# Altium schematic symbol library HGH.SchLib: 274 symbols (part 1 of 2)
Pins are listed as number, name and electrical type; pins without a type are passive.

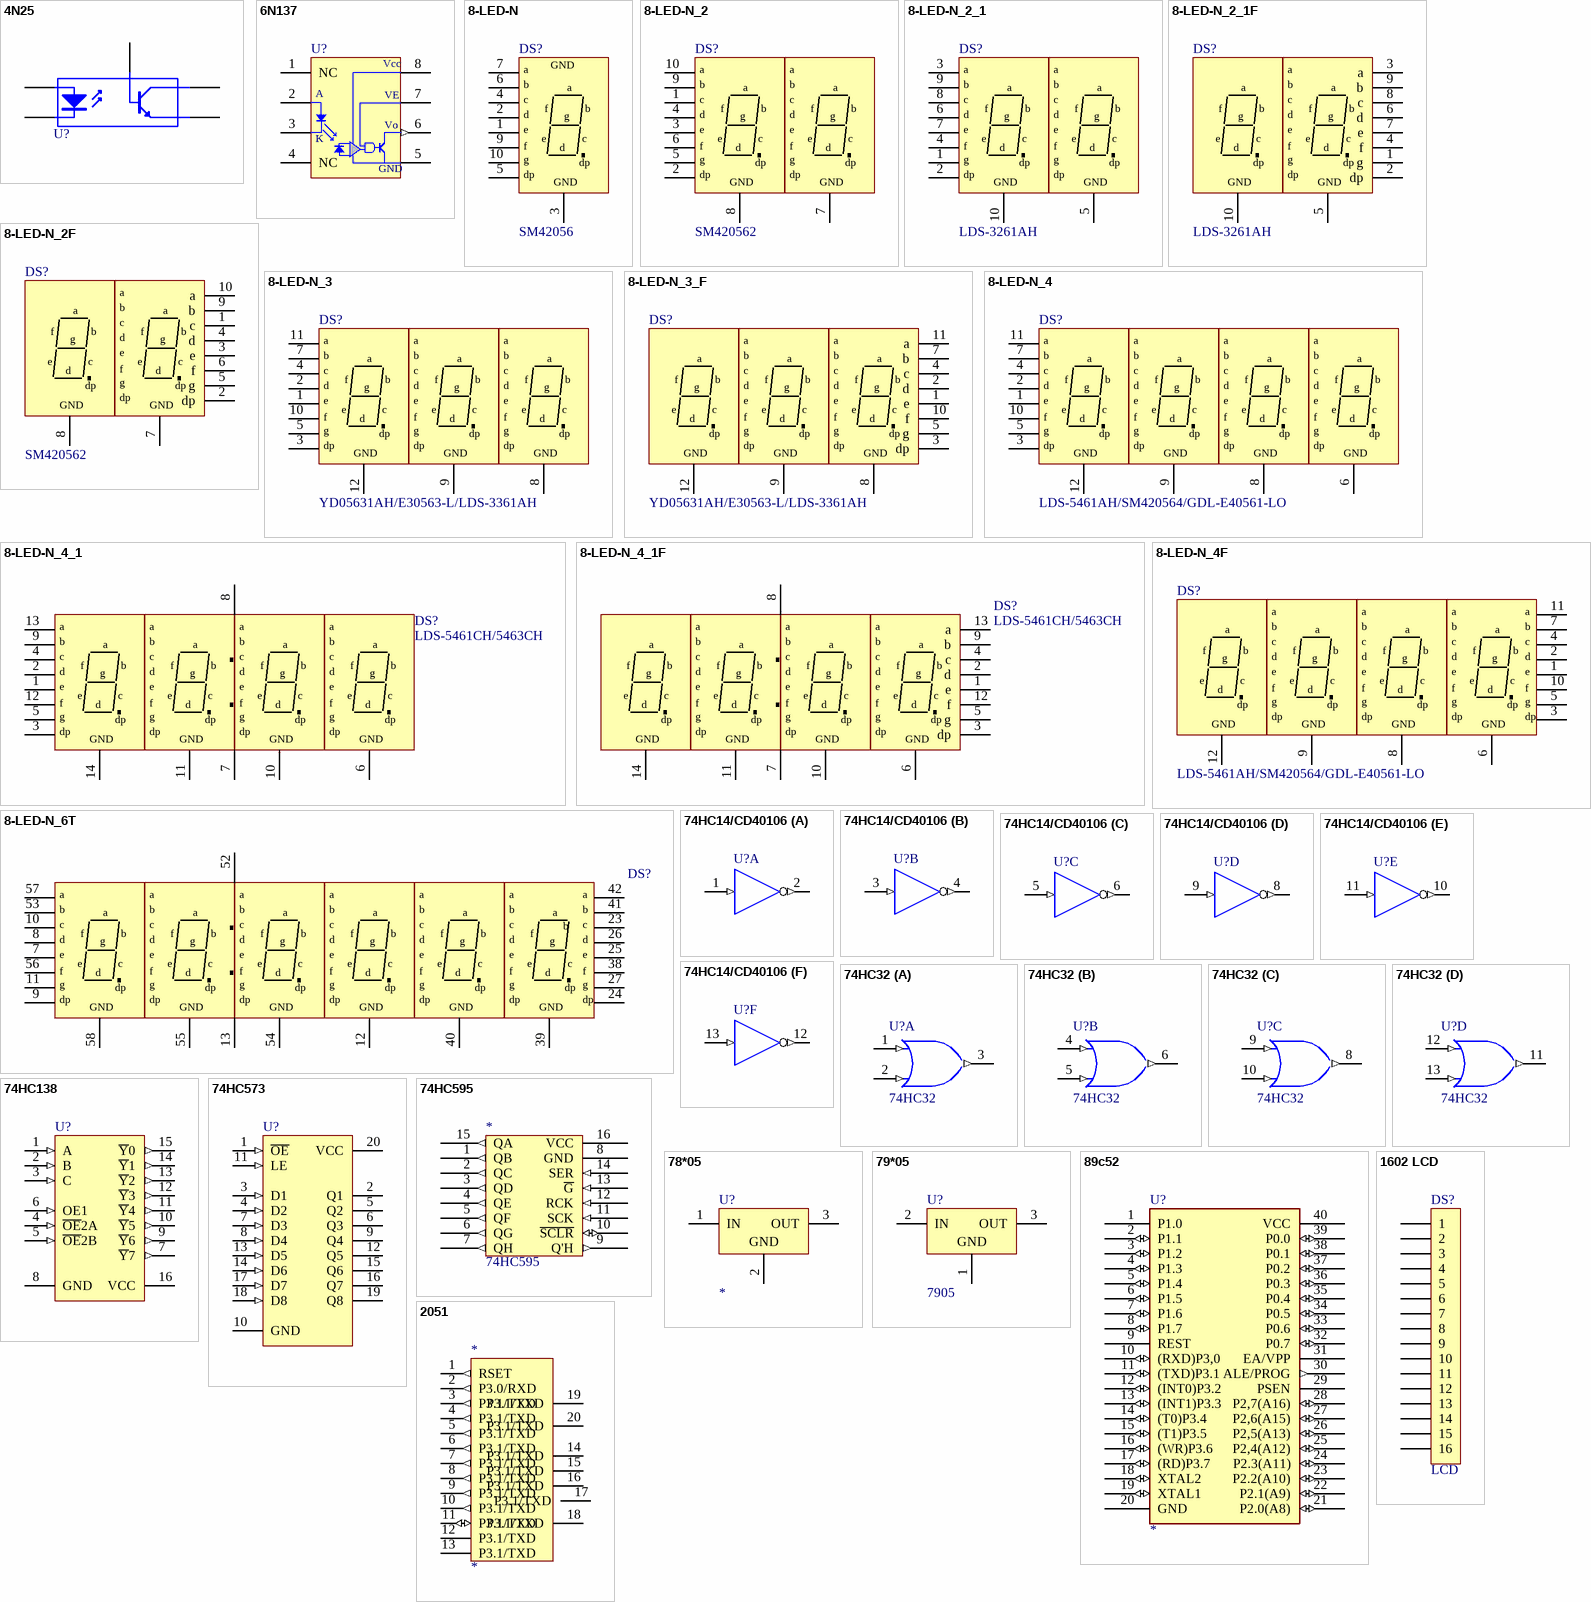
[diagram p0: symbols 4N25 to 2051]

## 4N25
designator U?
Optoisolator; Manufacturer: Generic Components; Class: Optoelectronic; Published: 1999
simulation model OPTOISO (Spice Subcircuit)
footprint DIP6
pins: 1 A, 2 K, 3 NC hidden to NC, 4 E, 5 C, 6 B

## 6N137
designator U?
Optoisolator,high speed; Manufacturer: Generic Components; Class: Optoelectronic; Published: 1999
simulation model OPTOISO (Spice Subcircuit)
footprint DIP8
pins: 1 NC, 2 A, 3 K, 4 NC, 5 GND (power), 6 Vo (out), 7 VE, 8 Vcc (power)

## 8-LED-N
designator DS?, comment SM42056
Common Cathhode Seven-Segment Display, Right Hand Decimal; Manufacturer: Generic Components; Class: Optoelectronic; SubClass: LED Display; Published: 08/06/2000; Publisher: Altium Hobart Technology Centre
simulation model AMBERCC (Spice Subcircuit)
footprint DPY-1
footprint DPY-1 - F
pins: 1 e, 2 d, 3 GND, 4 c, 5 dp, 6 b, 7 a, 8 GND hidden to GND, 9 f, 10 g

## 8-LED-N_2
designator DS?, comment SM420562
Common Cathhode Seven-Segment Display, Right Hand Decimal; Manufacturer: Generic Components; Class: Optoelectronic; SubClass: LED Display; Published: 08/06/2000; Publisher: Altium Hobart Technology Centre
simulation model AMBERCC (Spice Subcircuit)
footprint DPY-2(SM420562)
footprint DPY-2(SM420562)-T
footprint DPY-2-F(SM)
pins: 1 c, 2 dp, 3 e, 4 d, 5 g, 6 f, 7 GND, 8 GND, 9 b, 10 a

## 8-LED-N_2_1
designator DS?, comment LDS-3261AH
Common Cathhode Seven-Segment Display, Right Hand Decimal; Manufacturer: Generic Components; Class: Optoelectronic; SubClass: LED Display; Published: 08/06/2000; Publisher: Altium Hobart Technology Centre
simulation model AMBERCC (Spice Subcircuit)
footprint DPY-2 (LDS-3261AH)
pins: 1 g, 2 dp, 3 a, 4 f, 5 GND, 6 d, 7 e, 8 c, 9 b, 10 GND

## 8-LED-N_2_1F
designator DS?, comment LDS-3261AH
Common Cathhode Seven-Segment Display, Right Hand Decimal; Manufacturer: Generic Components; Class: Optoelectronic; SubClass: LED Display; Published: 08/06/2000; Publisher: Altium Hobart Technology Centre
simulation model AMBERCC (Spice Subcircuit)
footprint DPY-2 (LDS-3261AH)
pins: 1 g, 2 dp, 3 a, 4 f, 5 GND, 6 d, 7 e, 8 c, 9 b, 10 GND

## 8-LED-N_2F
designator DS?, comment SM420562
Common Cathhode Seven-Segment Display, Right Hand Decimal; Manufacturer: Generic Components; Class: Optoelectronic; SubClass: LED Display; Published: 08/06/2000; Publisher: Altium Hobart Technology Centre
simulation model AMBERCC (Spice Subcircuit)
footprint DPY-2(SM420562)
footprint DPY-2(SM420562)-T
pins: 1 c, 2 dp, 3 e, 4 d, 5 g, 6 f, 7 GND, 8 GND, 9 b, 10 a

## 8-LED-N_3
designator DS?, comment YD05631AH/E30563-L/LDS-3361AH
Common Cathhode Seven-Segment Display, Right Hand Decimal; Manufacturer: Generic Components; Class: Optoelectronic; SubClass: LED Display; Published: 08/06/2000; Publisher: Altium Hobart Technology Centre
simulation model AMBERCC (Spice Subcircuit)
footprint DPY-3(YD05631AH)
footprint DPY-3(YD05631AH)-T
footprint DPY-3(LDS-3361AH)
footprint DPY-3-F
pins: 1 e, 2 d, 3 dp, 4 c, 5 g, 7 b, 8 GND, 9 GND, 10 f, 11 a, 12 GND

## 8-LED-N_3_F
designator DS?, comment YD05631AH/E30563-L/LDS-3361AH
Common Cathhode Seven-Segment Display, Right Hand Decimal; Manufacturer: Generic Components; Class: Optoelectronic; SubClass: LED Display; Published: 08/06/2000; Publisher: Altium Hobart Technology Centre
simulation model AMBERCC (Spice Subcircuit)
footprint DPY-3(YD05631AH)
footprint DPY-3(YD05631AH)-T
footprint DPY-3(LDS-3361AH)
pins: 1 e, 2 d, 3 dp, 4 c, 5 g, 7 b, 8 GND, 9 GND, 10 f, 11 a, 12 GND

## 8-LED-N_4
designator DS?, comment LDS-5461AH/SM420564/GDL-E40561-LO
Common Cathhode Seven-Segment Display, Right Hand Decimal; Manufacturer: Generic Components; Class: Optoelectronic; SubClass: LED Display; Published: 08/06/2000; Publisher: Altium Hobart Technology Centre
simulation model AMBERCC (Spice Subcircuit)
footprint DPY-4 (SM420564)
footprint DPY-4 (SM420564) - T
footprint DPY-4-S
pins: 1 e, 2 d, 3 dp, 4 c, 5 g, 6 GND, 7 b, 8 GND, 9 GND, 10 f, 11 a, 12 GND

## 8-LED-N_4_1
designator DS?, comment LDS-5461CH/5463CH
Common Cathhode Seven-Segment Display, Right Hand Decimal; Manufacturer: Generic Components; Class: Optoelectronic; SubClass: LED Display; Published: 08/06/2000; Publisher: Altium Hobart Technology Centre
simulation model AMBERCC (Spice Subcircuit)
footprint DPY-4 (LDS-5461CH)
footprint DPY-4(LDS-5461AH)-T
pins: 1 e, 2 d, 3 dp, 4 c, 5 g, 6 GND, 7 GND, 8 dot, 9 b, 10 GND, 11 GND, 12 f, 13 a, 14 GND

## 8-LED-N_4_1F
designator DS?, comment LDS-5461CH/5463CH
Common Cathhode Seven-Segment Display, Right Hand Decimal; Manufacturer: Generic Components; Class: Optoelectronic; SubClass: LED Display; Published: 08/06/2000; Publisher: Altium Hobart Technology Centre
simulation model AMBERCC (Spice Subcircuit)
footprint DPY-4 (LDS-5461CH)
footprint DPY-4(LDS-5461AH)-T
footprint DPY-4-S
pins: 1 e, 2 d, 3 dp, 4 c, 5 g, 6 GND, 7 GND, 8 dot, 9 b, 10 GND, 11 GND, 12 f, 13 a, 14 GND

## 8-LED-N_4F
designator DS?, comment LDS-5461AH/SM420564/GDL-E40561-LO
Common Cathhode Seven-Segment Display, Right Hand Decimal; Manufacturer: Generic Components; Class: Optoelectronic; SubClass: LED Display; Published: 08/06/2000; Publisher: Altium Hobart Technology Centre
simulation model AMBERCC (Spice Subcircuit)
footprint DPY-4 (SM420564)
footprint DPY-4 (SM420564) - T
footprint DPY-4-S
pins: 1 e, 2 d, 3 dp, 4 c, 5 g, 6 GND, 7 b, 8 GND, 9 GND, 10 f, 11 a, 12 GND

## 8-LED-N_6T
designator DS?
Common Cathhode Seven-Segment Display, Right Hand Decimal; Manufacturer: Generic Components; Class: Optoelectronic; SubClass: LED Display; Published: 08/06/2000; Publisher: Altium Hobart Technology Centre
simulation model AMBERCC (Spice Subcircuit)
footprint DPY-6T/64
footprint DPY-6T/64 - T
pins: 7 e, 8 d, 9 dp, 10 c, 11 g, 12 GND, 13 GND, 23 c, 24 dp, 25 e, 26 d, 27 g, 38 f, 39 GND, 40 GND, 41 b, 42 a, 52 dot, 53 b, 54 GND, 55 GND, 56 f, 57 a, 58 GND

## 74HC14/CD40106
designator U?
Hex Schmitt-Trigger Inverter; Manufacturer: Texas Instruments; Class: Logic; SubClass: Gate; Published: 8/06/2000; Publisher: Altium Hobart Technology Centre
footprint SOP14
pins on every part: 7 GND (power) hidden to GND, 14 VCC (power) hidden to VCC
part A pins: 1 A (in), 2 Y (out)
part B pins: 3 A (in), 4 Y (out)
part C pins: 5 A (in), 6 Y (out)
part D pins: 8 Y (out), 9 A (in)
part E pins: 10 Y (out), 11 A (in)
part F pins: 12 Y (out), 13 A (in)

## 74HC32
designator U?
Quadruple 2-Input Positive-OR Gate; Manufacturer: Texas Instruments; Class: Logic; Published: 8/06/2000; Publisher: Altium Hobart Technology Centre; SubClass: Gate
footprint SOP14_74HC32
pins on every part: 7 GND (power) hidden to GND, 14 VCC (power) hidden to VCC
part A pins: 1 A (in), 2 B (in), 3 Y (out)
part B pins: 4 A (in), 5 B (in), 6 Y (out)
part C pins: 8 Y (out), 9 A (in), 10 B (in)
part D pins: 11 Y (out), 12 A (in), 13 B (in)

## 74HC138
designator U?
3-Line to 8-Line Decoder / Demultiplexer; Manufacturer: Texas Instruments; Revised: 12-July-2000: SIM Model Added.; Class: Logic; Published: 8/06/2000; Publisher: Altium Hobart Technology Centre; SubClass: Decoder/Demultiplexer
footprint SOP16_74LV138
pins: 1 A (in), 2 B (in), 3 C (in), 4 ~{OE}2A (in), 5 ~{OE}2B (in), 6 OE1 (in), 7 ~{Y}7 (out), 8 GND (power), 9 ~{Y}6 (out), 10 ~{Y}5 (out), 11 ~{Y}4 (out), 12 ~{Y}3 (out), 13 ~{Y}2 (out), 14 ~{Y}1 (out), 15 ~{Y}0 (out), 16 VCC (power)

## 74HC573
designator U?
Octal D-Type Transparent Latche and Edge-Triggered Flip-Flops; Manufacturer: Texas Instruments; Class: Logic; SubClass: Latch; Published: 8-Jun-2000.; Publisher: Altium Hobart Technology Centre
footprint SOP20
pins: 1 ~{OE} (in), 2 Q1 (hiz), 3 D1 (in), 4 D2 (in), 5 Q2 (hiz), 6 Q3 (hiz), 7 D3 (in), 8 D4 (in), 9 Q4 (hiz), 10 GND (power), 11 LE (in), 12 Q5 (hiz), 13 D5 (in), 14 D6 (in), 15 Q6 (hiz), 16 Q7 (hiz), 17 D7 (in), 18 D8 (in), 19 Q8 (hiz), 20 VCC (power)

## 74HC595
designator *
footprint SOP16_7843
footprint SOP16_202
pins: 1 QB (out), 2 QC (out), 3 QD (out), 4 QE (out), 5 QF (out), 6 QG (out), 7 QH (out), 8 GND (power), 9 Q'H (out), 10 ~{SCLR} (io), 11 SCK (in), 12 RCK (in), 13 ~{G} (in), 14 SER (in), 15 QA (out), 16 VCC (power)

## 78*05
designator U?
pins: 1 IN (power), 2 GND (power), 3 OUT (power)

## 79*05
designator U?, comment 7905
pins: 1 GND (power), 2 IN (power), 3 OUT (power)

## 89c52
designator U?
AT89C52
footprint DIP40
pins: 1 P1.0, 2 P1.1 (io), 3 P1.2 (io), 4 P1.3 (io), 5 P1.4 (io), 6 P1.5 (io), 7 P1.6 (io), 8 P1.7 (io), 9 REST, 10 (RXD)P3,0 (io), 11 (TXD)P3.1 (io), 12 (INT0)P3.2 (io), 13 (INT1)P3.3 (io), 14 (T0)P3.4 (io), 15 (T1)P3.5 (io), 16 (WR)P3.6 (io), 17 (RD)P3.7 (io), 18 XTAL2 (io), 19 XTAL1 (io), 20 GND (power), 21 P2.0(A8) (io), 22 P2.1(A9) (io), 23 P2.2(A10) (io), 24 P2.3(A11) (io), 25 P2,4(A12) (io), 26 P2,5(A13) (io), 27 P2,6(A15) (io), 28 P2,7(A16) (io), 29 PSEN (oe), 30 ALE/PROG (out), 31 EA/VPP (power), 32 P0.7 (io), 33 P0.6 (io), 34 P0.5 (io), 35 P0.4 (io), 36 P0.3 (io), 37 P0.2 (io), 38 P0.1 (io), 39 P0.0 (io), 40 VCC (power)

## 1602 LCD
designator DS?, comment LCD
1601/1602 LCD
footprint 1602 LCD (LCD)
pins: 1, 2, 3, 4, 5, 6, 7, 8, 9, 10, 11, 12, 13, 14, 15, 16

## 2051
designator *
pins: 1 RSET (out), 2 P3.0/RXD (out), 3 P3.1/TXD (out), 4 P3.1/TXD (out), 5 P3.1/TXD (out), 6 P3.1/TXD (out), 7 P3.1/TXD (out), 8 P3.1/TXD (out), 9 P3.1/TXD (out), 10 P3.1/TXD (out), 11 P3.1/TXD (io), 12 P3.1/TXD (oc), 13 P3.1/TXD, 14 P3.1/TXD (hiz), 15 P3.1/TXD (hiz), 16 P3.1/TXD (hiz), 17 P3.1/TXD (hiz), 18 P3.1/TXD (hiz), 19 P3.1/TXD (hiz), 20 P3.1/TXD (hiz)

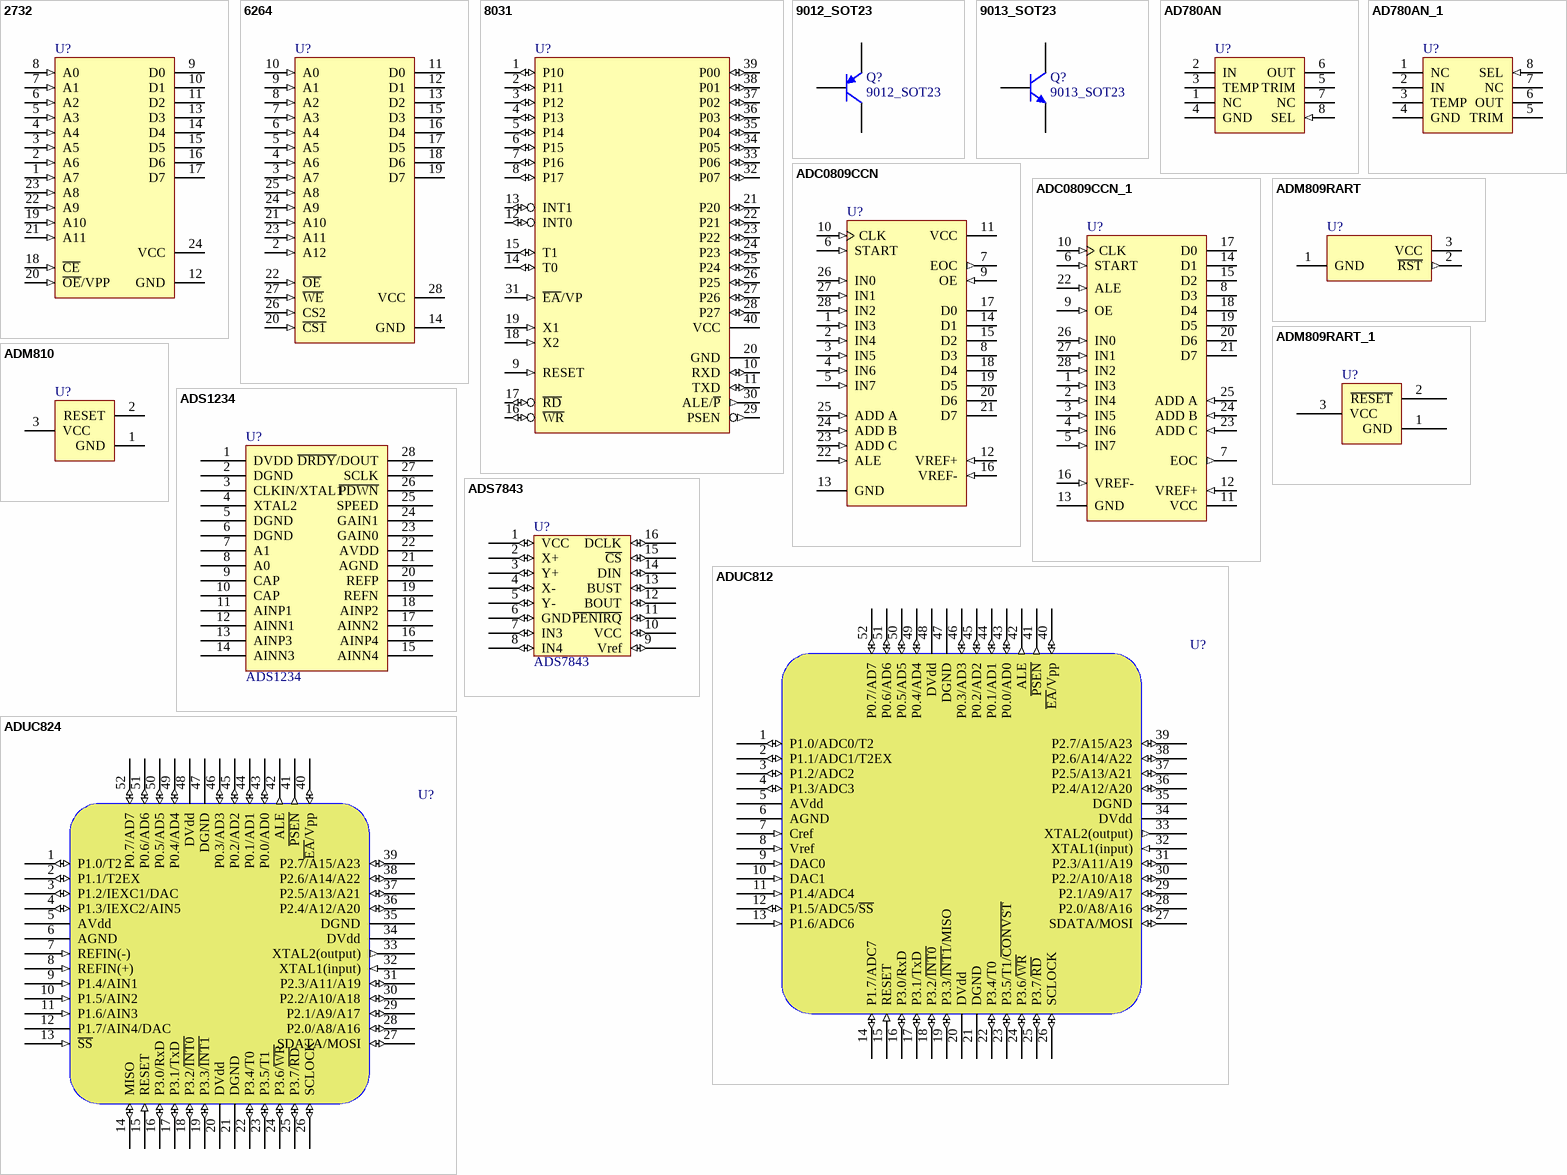
[diagram p1: symbols 2732 to ADUC824]

## 2732
designator U?
ROM,4K
footprint DIP28
pins: 1 A7 (in), 2 A6 (in), 3 A5 (in), 4 A4 (in), 5 A3 (in), 6 A2 (in), 7 A1 (in), 8 A0 (in), 9 D0 (hiz), 10 D1 (hiz), 11 D2 (hiz), 12 GND, 13 D3 (hiz), 14 D4 (hiz), 15 D5 (hiz), 16 D6 (hiz), 17 D7 (hiz), 18 ~{CE} (in), 19 A10 (in), 20 ~{OE}/VPP (in), 21 A11 (in), 22 A9 (in), 23 A8 (in), 24 VCC

## 6264
designator U?
RAM,8K
footprint DIP28
pins: 2 A12 (in), 3 A7 (in), 4 A6 (in), 5 A5 (in), 6 A4 (in), 7 A3 (in), 8 A2 (in), 9 A1 (in), 10 A0 (in), 11 D0 (hiz), 12 D1 (hiz), 13 D2 (hiz), 14 GND, 15 D3 (hiz), 16 D4 (hiz), 17 D5 (hiz), 18 D6 (hiz), 19 D7 (hiz), 20 ~{CS1} (in), 21 A10 (in), 22 ~{OE} (in), 23 A11 (in), 24 A9 (in), 25 A8 (in), 26 CS2 (in), 27 ~{WE} (in), 28 VCC

## 8031
designator U?
MUC
footprint DIP40
pins: 1 P10 (io), 2 P11 (io), 3 P12 (io), 4 P13 (io), 5 P14 (io), 6 P15 (io), 7 P16 (io), 8 P17 (io), 9 RESET (in), 10 RXD (io), 11 TXD (io), 12 INT0 (io), 13 INT1 (io), 14 T0 (io), 15 T1 (io), 16 ~{WR} (io), 17 ~{RD} (io), 18 X2 (in), 19 X1 (in), 20 GND, 21 P20 (io), 22 P21 (io), 23 P22 (io), 24 P23 (io), 25 P24 (io), 26 P25 (io), 27 P26 (io), 28 P27 (io), 29 PSEN (out), 30 ALE/~{P} (out), 31 ~{EA}/VP (in), 32 P07 (io), 33 P06 (io), 34 P05 (io), 35 P04 (io), 36 P03 (io), 37 P02 (io), 38 P01 (io), 39 P00 (io), 40 VCC

## 9012_SOT23
designator Q?
footprint SOT-23-3L
pins: 1 B, 2 E, 3 C

## 9013_SOT23
designator Q?
footprint SOT-23-3L
pins: 1 B, 2 E, 3 C

## AD780AN
designator U?
2.5V/3.0V High-Precision Reference; Manufacturer: Analog Devices; Revised: 10-July-2000: SIM Model Added.; Class: Power Management; SubClass: Voltage Reference; Note: Pins 1 and 7 are not connected; Published: 8/06/2000; Publisher: Altium Hobart Technology Centre
simulation model AD780A (SUBCKT)
footprint DIP8
pins: 1 NC, 2 IN (power), 3 TEMP, 4 GND (power), 5 TRIM, 6 OUT (power), 7 NC, 8 SEL (in)

## AD780AN_1
designator U?
2.5V/3.0V High-Precision Reference; Manufacturer: Analog Devices; Revised: 10-July-2000: SIM Model Added.; Class: Power Management; SubClass: Voltage Reference; Note: Pins 1 and 7 are not connected; Published: 8/06/2000; Publisher: Altium Hobart Technology Centre
footprint DIP8
simulation model AD780A (SUBCKT)
pins: 1 NC, 2 IN (power), 3 TEMP, 4 GND (power), 5 TRIM, 6 OUT (power), 7 NC, 8 SEL (in)

## ADC0809CCN
designator U?
8-Bit 礟-Compatible A/D Converter with 8-Channel Multiplexer; Manufacturer: National Semiconductor; SubClass: Analog to Digital; Published: 15/04/2002; Publisher: Altium Hobart Technology Centre; Class: Converter
footprint DIP28
pins: 1 IN3 (in), 2 IN4 (in), 3 IN5 (in), 4 IN6 (in), 5 IN7 (in), 6 START (in), 7 EOC (out), 8 D3 (hiz), 9 OE (in), 10 CLK (in), 11 VCC (power), 12 VREF+ (in), 13 GND (power), 14 D1 (hiz), 15 D2 (hiz), 16 VREF- (in), 17 D0 (hiz), 18 D4 (hiz), 19 D5 (hiz), 20 D6 (hiz), 21 D7 (hiz), 22 ALE (in), 23 ADD C (in), 24 ADD B (in), 25 ADD A (in), 26 IN0 (in), 27 IN1 (in), 28 IN2 (in)

## ADC0809CCN_1
designator U?
8-Bit 礟-Compatible A/D Converter with 8-Channel Multiplexer; Manufacturer: National Semiconductor; SubClass: Analog to Digital; Published: 15/04/2002; Publisher: Altium Hobart Technology Centre; Class: Converter
footprint DIP28
pins: 1 IN3 (in), 2 IN4 (in), 3 IN5 (in), 4 IN6 (in), 5 IN7 (in), 6 START (in), 7 EOC (out), 8 D3 (hiz), 9 OE (in), 10 CLK (in), 11 VCC (power), 12 VREF+ (in), 13 GND (power), 14 D1 (hiz), 15 D2 (hiz), 16 VREF- (in), 17 D0 (hiz), 18 D4 (hiz), 19 D5 (hiz), 20 D6 (hiz), 21 D7 (hiz), 22 ALE (in), 23 ADD C (in), 24 ADD B (in), 25 ADD A (in), 26 IN0 (in), 27 IN1 (in), 28 IN2 (in)

## ADM809RART
designator U?
Microprocessor Supervisory Circuit in 3-Pin SOT-23; Manufacturer: Analog Devices; Class: Power Management; Published: 8/06/2000; Publisher: Altium Hobart Technology Centre; SubClass: Supervisory Circuit
footprint SOT-23-3L
pins: 1 GND (power), 2 ~{RST} (out), 3 VCC (power)

## ADM809RART_1
designator U?
Microprocessor Supervisory Circuit in 3-Pin SOT-23,3L; Manufacturer: Analog Devices; Class: Power Management; Published: 8/06/2000; Publisher: Altium Hobart Technology Centre; SubClass: Supervisory Circuit
footprint SOT-23-3L
pins: 1 GND (power), 2 ~{RESET}, 3 VCC (power)

## ADM810
designator U?
Microprocessor Supervisory Circuit in 3-Pin SOT-23,3L; Manufacturer: Analog Devices; Class: Power Management; Published: 8/06/2000; Publisher: Altium Hobart Technology Centre; SubClass: Supervisory Circuit
footprint SOT-23-3L
pins: 1 GND (power), 2 RESET, 3 VCC (power)

## ADS1234
designator U?
footprint SOP28-ADS1234
pins: 1 DVDD, 2 DGND, 3 CLKIN/XTAL1, 4 XTAL2, 5 DGND, 6 DGND, 7 A1, 8 A0, 9 CAP, 10 CAP, 11 AINP1, 12 AINN1, 13 AINP3, 14 AINN3, 15 AINN4, 16 AINP4, 17 AINN2, 18 AINP2, 19 REFN, 20 REFP, 21 AGND, 22 AVDD, 23 GAIN0, 24 GAIN1, 25 SPEED, 26 ~{PDWN}, 27 SCLK, 28 ~{DRDY}/DOUT

## ADS7843
designator U?
footprint SOP16_7843
pins: 1 VCC (io), 2 X+ (io), 3 Y+ (io), 4 X- (io), 5 Y- (io), 6 GND (io), 7 IN3 (io), 8 IN4 (io), 9 Vref (io), 10 VCC (io), 11 ~{PENIRQ} (io), 12 BOUT (io), 13 BUST (io), 14 DIN (io), 15 ~{CS} (io), 16 DCLK (io)

## ADUC812
designator U?
MicroConverter ,Dual 12-Bit ADCs with Emdedded  FLASH MCU; Class: MCU; SubClass: MicroConverter
footprint MQFP10 X10-52(N)
pins: 1 P1.0/ADC0/T2 (io), 2 P1.1/ADC1/T2EX (io), 3 P1.2/ADC2 (io), 4 P1.3/ADC3 (io), 5 AVdd (power), 6 AGND (power), 7 Cref (in), 8 Vref (in), 9 DAC0 (in), 10 DAC1 (in), 11 P1.4/ADC4 (in), 12 P1.5/ADC5/~{SS} (io), 13 P1.6/ADC6 (in), 14 P1.7/ADC7 (io), 15 RESET (in), 16 P3.0/RxD (io), 17 P3.1/TxD (io), 18 P3.2/~{INT0} (io), 19 P3.3/~{INT1}/MISO (io), 20 DVdd (power), 21 DGND (power), 22 P3.4/T0 (io), 23 P3.5/T1/~{CONVST} (io), 24 P3.6/~{WR} (io), 25 P3.7/~{RD} (io), 26 SCLOCK (io), 27 SDATA/MOSI (io), 28 P2.0/A8/A16 (io), 29 P2.1/A9/A17 (io), 30 P2.2/A10/A18 (io), 31 P2.3/A11/A19 (io), 32 XTAL1(input) (in), 33 XTAL2(output) (out), 34 DVdd (power), 35 DGND (power), 36 P2.4/A12/A20 (io), 37 P2.5/A13/A21 (io), 38 P2.6/A14/A22 (io), 39 P2.7/A15/A23 (io), 40 ~{EA}/Vpp (io), 41 ~{PSEN} (out), 42 ALE (out), 43 P0.0/AD0 (io), 44 P0.1/AD1 (io), 45 P0.2/AD2 (io), 46 P0.3/AD3 (io), 47 DGND (power), 48 DVdd (power), 49 P0.4/AD4 (io), 50 P0.5/AD5 (io), 51 P0.6/AD6 (io), 52 P0.7/AD7 (io)

## ADUC824
designator U?
MicroConverter ,Dual 16-24Bit ADCs,MCU; Cllass: MCU; SubClass: MicroConverter
footprint MQFP10 X10-52(N)
pins: 1 P1.0/T2 (io), 2 P1.1/T2EX (io), 3 P1.2/IEXC1/DAC (io), 4 P1.3/IEXC2/AIN5 (io), 5 AVdd (power), 6 AGND (power), 7 REFIN(-) (in), 8 REFIN(+) (in), 9 P1.4/AIN1 (in), 10 P1.5/AIN2 (in), 11 P1.6/AIN3 (in), 12 P1.7/AIN4/DAC, 13 ~{SS} (in), 14 MISO (io), 15 RESET (in), 16 P3.0/RxD (io), 17 P3.1/TxD (io), 18 P3.2/~{INT0} (io), 19 P3.3/~{INT1} (io), 20 DVdd (power), 21 DGND (power), 22 P3.4/T0 (io), 23 P3.5/T1 (io), 24 P3.6/~{WR} (io), 25 P3.7/~{RD} (io), 26 SCLOCK (io), 27 SDATA/MOSI (io), 28 P2.0/A8/A16 (io), 29 P2.1/A9/A17 (io), 30 P2.2/A10/A18 (io), 31 P2.3/A11/A19 (io), 32 XTAL1(input) (in), 33 XTAL2(output) (out), 34 DVdd (power), 35 DGND (power), 36 P2.4/A12/A20 (io), 37 P2.5/A13/A21 (io), 38 P2.6/A14/A22 (io), 39 P2.7/A15/A23 (io), 40 ~{EA}/Vpp (io), 41 ~{PSEN} (out), 42 ALE (out), 43 P0.0/AD0 (io), 44 P0.1/AD1 (io), 45 P0.2/AD2 (io), 46 P0.3/AD3 (io), 47 DGND (power), 48 DVdd (power), 49 P0.4/AD4 (io), 50 P0.5/AD5 (io), 51 P0.6/AD6 (io), 52 P0.7/AD7 (io)

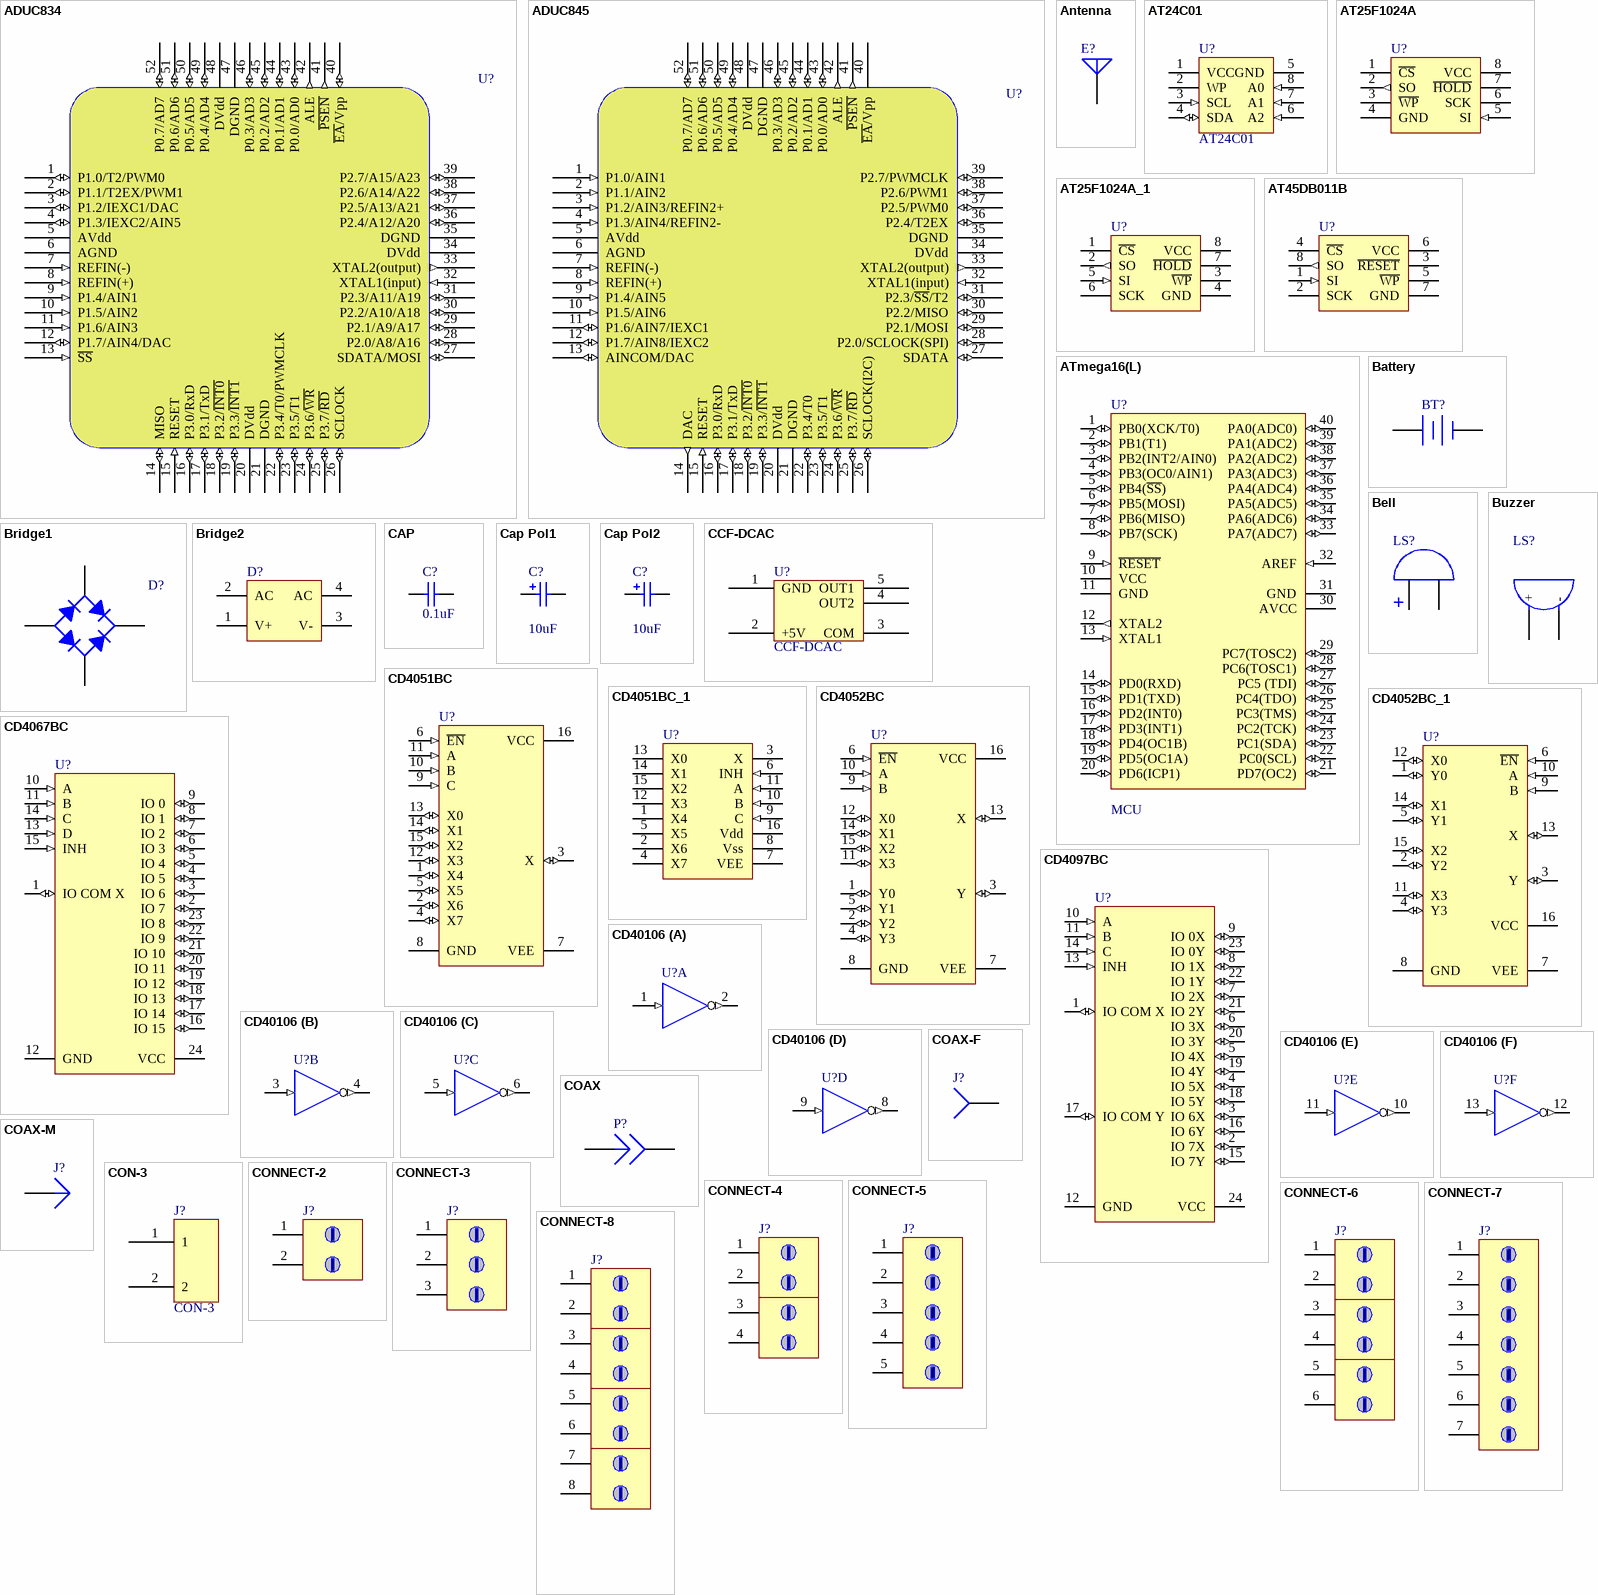
[diagram p2: symbols ADUC834 to CONNECT-8]

## ADUC834
designator U?
MicroConverter ,Dual 16-24Bit ADCs with Emdedded 62KB FLASH MCU; Class: MCU; SubClass: MicroConverter
footprint MQFP10 X10-52(N)
pins: 1 P1.0/T2/PWM0 (io), 2 P1.1/T2EX/PWM1 (io), 3 P1.2/IEXC1/DAC (io), 4 P1.3/IEXC2/AIN5 (io), 5 AVdd (power), 6 AGND (power), 7 REFIN(-) (in), 8 REFIN(+) (in), 9 P1.4/AIN1 (in), 10 P1.5/AIN2 (in), 11 P1.6/AIN3 (in), 12 P1.7/AIN4/DAC (io), 13 ~{SS} (in), 14 MISO (io), 15 RESET (in), 16 P3.0/RxD (io), 17 P3.1/TxD (io), 18 P3.2/~{INT0} (io), 19 P3.3/~{INT1} (io), 20 DVdd (power), 21 DGND (power), 22 P3.4/T0/PWMCLK (io), 23 P3.5/T1 (io), 24 P3.6/~{WR} (io), 25 P3.7/~{RD} (io), 26 SCLOCK (io), 27 SDATA/MOSI (io), 28 P2.0/A8/A16 (io), 29 P2.1/A9/A17 (io), 30 P2.2/A10/A18 (io), 31 P2.3/A11/A19 (io), 32 XTAL1(input) (in), 33 XTAL2(output) (out), 34 DVdd (power), 35 DGND (power), 36 P2.4/A12/A20 (io), 37 P2.5/A13/A21 (io), 38 P2.6/A14/A22 (io), 39 P2.7/A15/A23 (io), 40 ~{EA}/Vpp (io), 41 ~{PSEN} (out), 42 ALE (out), 43 P0.0/AD0 (io), 44 P0.1/AD1 (io), 45 P0.2/AD2 (io), 46 P0.3/AD3 (io), 47 DGND (power), 48 DVdd (power), 49 P0.4/AD4 (io), 50 P0.5/AD5 (io), 51 P0.6/AD6 (io), 52 P0.7/AD7 (io)

## ADUC845
designator U?  (value not drawn)
icroConverter , 8 Channel, Dual 24Bit ADCs with Emdedded 62KB FLASH MCU; Class: MUC; SubClass: MicrConverter
footprint MQFP10 X10-52(N)
pins: 1 P1.0/AIN1 (in), 2 P1.1/AIN2 (in), 3 P1.2/AIN3/REFIN2+ (in), 4 P1.3/AIN4/REFIN2- (in), 5 AVdd (power), 6 AGND (power), 7 REFIN(-) (in), 8 REFIN(+) (in), 9 P1.4/AIN5 (in), 10 P1.5/AIN6 (in), 11 P1.6/AIN7/IEXC1 (io), 12 P1.7/AIN8/IEXC2 (io), 13 AINCOM/DAC (io), 14 DAC (out), 15 RESET (in), 16 P3.0/RxD (io), 17 P3.1/TxD (io), 18 P3.2/~{INT0} (io), 19 P3.3/~{INT1} (io), 20 DVdd (power), 21 DGND (power), 22 P3.4/T0 (io), 23 P3.5/T1 (io), 24 P3.6/~{WR} (io), 25 P3.7/~{RD} (io), 26 SCLOCK(I2C) (io), 27 SDATA (io), 28 P2.0/SCLOCK(SPI) (io), 29 P2.1/MOSI (io), 30 P2.2/MISO (io), 31 P2.3/~{SS}/T2 (io), 32 XTAL1(input) (in), 33 XTAL2(output) (out), 34 DVdd (power), 35 DGND (power), 36 P2.4/T2EX (io), 37 P2.5/PWM0 (io), 38 P2.6/PWM1 (io), 39 P2.7/PWMCLK (io), 40 ~{EA}/Vpp, 41 ~{PSEN} (out), 42 ALE (out), 43 P0.0/AD0 (io), 44 P0.1/AD1 (io), 45 P0.2/AD2 (io), 46 P0.3/AD3 (io), 47 DGND (power), 48 DVdd (power), 49 P0.4/AD4 (io), 50 P0.5/AD5 (io), 51 P0.6/AD6 (io), 52 P0.7/AD7 (io)

## Antenna
designator E?
Generic Antenna; Manufacturer: Generic Components; Published: 1999
pins: 1 A

## AT24C01
designator U?
footprint SOP-8-M
pins: 1 VCC (power), 2 WP, 3 SCL (in), 4 SDA (io), 5 GND (power), 6 A2 (in), 7 A1 (in), 8 A0 (in)

## AT25F1024A
designator U?
serial reprogrammable Flash memory IM(bit); Manufacturer: ATLEM; Revised: 10-July-2000: SIM Model Added.; SubClass: serial Flash memory; Note: Pins 1 and 7 are not connected; Published: 8/06/2000; Publisher: Altium Hobart Technology Centre; Class: Memory
footprint SOP-8
pins: 1 ~{CS}, 2 SO (out), 3 ~{WP}, 4 GND (power), 5 SI (in), 6 SCK, 7 ~{HOLD}, 8 VCC (power)

## AT25F1024A_1
designator U?
serial reprogrammable Flash memory IM(bit); Manufacturer: ATLEM; Revised: 10-July-2000: SIM Model Added.; SubClass: serial Flash memory; Note: Pins 1 and 7 are not connected; Published: 8/06/2000; Publisher: Altium Hobart Technology Centre; Class: Memory
footprint SOP-8
pins: 1 ~{CS}, 2 SO (out), 3 ~{WP}, 4 GND (power), 5 SI (in), 6 SCK, 7 ~{HOLD}, 8 VCC (power)

## AT45DB011B
designator U?
serial reprogrammable Flash memory IM(bit); Manufacturer: ATLEM; Revised: 10-July-2000: SIM Model Added.; SubClass: serial Flash memory; Note: Pins 1 and 7 are not connected; Published: 8/06/2000; Publisher: Altium Hobart Technology Centre; Class: Memory
footprint SOP-8 - W
pins: 1 SI (in), 2 SCK, 3 ~{RESET}, 4 ~{CS}, 5 ~{WP}, 6 VCC (power), 7 GND (power), 8 SO (out)

## ATmega16(L)
designator U?  Class: MCU
MCU,High-performance, Low-power AVR@8-bit Microcontroller
footprint DIP40
pins: 1 PB0(XCK/T0) (io), 2 PB1(T1) (io), 3 PB2(INT2/AIN0) (io), 4 PB3(OC0/AIN1) (io), 5 PB4(~{SS}) (io), 6 PB5(MOSI) (io), 7 PB6(MISO) (io), 8 PB7(SCK) (io), 9 ~{RESET} (in), 10 VCC (power), 11 GND (power), 12 XTAL2 (out), 13 XTAL1 (in), 14 PD0(RXD) (io), 15 PD1(TXD) (io), 16 PD2(INT0) (io), 17 PD3(INT1) (io), 18 PD4(OC1B) (io), 19 PD5(OC1A) (io), 20 PD6(ICP1) (io), 21 PD7(OC2) (io), 22 PC0(SCL) (io), 23 PC1(SDA) (io), 24 PC2(TCK) (io), 25 PC3(TMS) (io), 26 PC4(TDO) (io), 27 PC5 (TDI) (io), 28 PC6(TOSC1) (io), 29 PC7(TOSC2) (io), 30 AVCC (power), 31 GND (power), 32 AREF (in), 33 PA7(ADC7) (io), 34 PA6(ADC6) (io), 35 PA5(ADC5) (io), 36 PA4(ADC4) (io), 37 PA3(ADC3) (io), 38 PA2(ADC2) (io), 39 PA1(ADC2) (io), 40 PA0(ADC0) (io)

## Battery
designator BT?
Multicell Battery; Manufacturer: Generic Components; Published: 1999
pins: 1 +, 2 -

## Bell
designator LS?
Electrical Bell; Manufacturer: Generic Components; Published: 1999
footprint BELL0.3-0.46
pins: 1 A, 2 B

## Bridge1
designator D?
Full Wave Diode Bridge; Manufacturer: Generic Components; Class: Discrete; SubClass: Rectifier - Bridge; Published: 08/06/2000; Publisher: Altium Hobart Technology Centre
simulation model BRIDGE (Spice Subcircuit)
footprint R-BIP-P4/D0.4
pins: 1 A, 2 C, 3 K, 4 C

## Bridge2
designator D?
Diode Bridge; Manufacturer: Generic Components; Class: Discrete; SubClass: Rectifier - Bridge; Published: 1999
simulation model BRIDGE (Spice Subcircuit)
pins: 1 V+, 2 AC, 3 V-, 4 AC

## Buzzer
designator LS?
Buzzer; Manufacturer: Generic Components; Published: 1999
footprint BELL0.3-0.46
pins: 1 +, 2 -

## CAP
designator C?  value 0.1uF
Capacitor; Manufacturer: Generic Components; Class: Passive; Published: 08/06/2000; Publisher: Altium Hobart Technology Centre; SubClass: Capacitor
simulation model CAP (Capacitor)
signal-integrity model Cap
footprint RAD0.1
footprint RAD0.3
footprint RAD0.7
footprint RAD0.2
footprint CC1005-0402
footprint RAD0.2 - 1
ediflib Model Name (Model Description)
footprint RAD0.4 (Model Description)
footprint RAD0.45
footprint RAD0.6
pins: 1, 2

## Cap Pol1
designator C?  value 10uF
Polarized Capacitor (Radial); Manufacturer: Generic Components; Class: Passive; Published: 08/06/2000; Publisher: Altium Hobart Technology Centre; SubClass: Capacitor
simulation model CAP (Capacitor)
signal-integrity model Cap Pol
footprint RB0.1-0.2
footprint RB0.1-0.25
footprint RB0.15-0.32
footprint RB0.2-0.50
footprint RB0.3-0.65
footprint RB0.2-0.4
footprint RB0.1-0.2 - D
footprint RB0.1-0.2 - D
pins: 1, 2

## Cap Pol2
designator C?  value 10uF
Polarized Capacitor (Axial); Manufacturer: Generic Components; Class: Passive; Published: 08/06/2000; Publisher: Altium Hobart Technology Centre; SubClass: Capacitor
simulation model CAP (Capacitor)
signal-integrity model Cap Pol
footprint POLAR-0.2
pins: 1, 2

## CCF-DCAC
designator U?
footprint CCF-DCAC
pins: 1 GND, 2 +5V, 3 COM, 4 OUT2, 5 OUT1

## CD4051BC
designator U?
8-Channel Analog Multiplexer/Demultiplexer; Manufacturer: National Semiconductor; Class: Logic; SubClass: Multiplexer/Encoder/Selector; Published: 15/04/2002; Publisher: Altium Hobart Technology Centre
footprint DIP16
pins: 1 X4 (io), 2 X6 (io), 3 X (io), 4 X7 (io), 5 X5 (io), 6 ~{EN} (in), 7 VEE (power), 8 GND (power), 9 C (in), 10 B (in), 11 A (in), 12 X3 (io), 13 X0 (io), 14 X1 (io), 15 X2 (io), 16 VCC (power)

## CD4051BC_1
designator U?
8-Channel Analog Multiplexer/Demultiplexer; Manufacturer: National Semiconductor; Class: Logic; SubClass: Multiplexer/Encoder/Selector; Published: 15/04/2002; Publisher: Altium Hobart Technology Centre
footprint DIP16
pins: 1 X4, 2 X6, 3 X, 4 X7, 5 X5, 6 INH (in), 7 VEE, 8 Vss (power), 9 C (in), 10 B (in), 11 A (in), 12 X3, 13 X0, 14 X1, 15 X2, 16 Vdd (power)

## CD4052BC
designator U?
Dual 4-Channel Analog Multiplexer/Demultiplexer; Manufacturer: National Semiconductor; Class: Logic; SubClass: Multiplexer/Encoder/Selector; Published: 15/04/2002; Publisher: Altium Hobart Technology Centre
footprint DIP16
pins: 1 Y0 (io), 2 Y2 (io), 3 Y (io), 4 Y3 (io), 5 Y1 (io), 6 ~{EN} (in), 7 VEE (power), 8 GND (power), 9 B (in), 10 A (in), 11 X3 (io), 12 X0 (io), 13 X (io), 14 X1 (io), 15 X2 (io), 16 VCC (power)

## CD4052BC_1
designator U?
Dual 4-Channel Analog Multiplexer/Demultiplexer; Manufacturer: National Semiconductor; Class: Logic; SubClass: Multiplexer/Encoder/Selector; Published: 15/04/2002; Publisher: Altium Hobart Technology Centre
footprint DIP16
pins: 1 Y0 (io), 2 Y2 (io), 3 Y (io), 4 Y3 (io), 5 Y1 (io), 6 ~{EN} (in), 7 VEE (power), 8 GND (power), 9 B (in), 10 A (in), 11 X3 (io), 12 X0 (io), 13 X (io), 14 X1 (io), 15 X2 (io), 16 VCC (power)

## CD4067BC
designator U?
Analog Multiplexer/Demultiplexer; Manufacturer: ST-Microelectronics; Class: Logic; SubClass: Multiplexer/Encoder/Selector; Published: 08/06/2000; Publisher: Altium Hobart Technology Centre
footprint DIP24
pins: 1 IO COM X  (io), 2 IO 7 (io), 3 IO 6 (io), 4 IO 5 (io), 5 IO 4 (io), 6 IO 3 (io), 7 IO 2 (io), 8 IO 1 (io), 9 IO 0 (io), 10 A (in), 11 B (in), 12 GND (power), 13 D (in), 14 C (in), 15 INH (in), 16 IO 15 (io), 17 IO 14 (io), 18 IO 13 (io), 19 IO 12 (io), 20 IO 11 (io), 21 IO 10 (io), 22 IO 9 (io), 23 IO 8 (io), 24 VCC (power)

## CD4097BC
designator U?
Analog Multiplexer/Demultiplexer; Manufacturer: ST-Microelectronics; Class: Logic; SubClass: Multiplexer/Encoder/Selector; Published: 08/06/2000; Publisher: Altium Hobart Technology Centre
footprint DIP24
pins: 1 IO COM X  (io), 2 IO 7X (io), 3 IO 6X (io), 4 IO 5X (io), 5 IO 4X (io), 6 IO 3X (io), 7 IO 2X (io), 8 IO 1X (io), 9 IO 0X (io), 10 A (in), 11 B (in), 12 GND (power), 13 INH (in), 14 C (in), 15 IO 7Y (io), 16 IO 6Y (io), 17 IO COM Y  (io), 18 IO 5Y (io), 19 IO 4Y (io), 20 IO 3Y (io), 21 IO 2Y (io), 22 IO 1Y (io), 23 IO 0Y (io), 24 VCC (power)

## CD40106
designator U?
Hex Schmitt-Trigger Inverter; Manufacturer: Texas Instruments; Class: Logic; SubClass: Gate; Published: 8/06/2000; Publisher: Altium Hobart Technology Centre
footprint DIP14
pins on every part: 7 GND (power) hidden to GND, 14 VCC (power) hidden to VCC
part A pins: 1 A (in), 2 Y (out)
part B pins: 3 A (in), 4 Y (out)
part C pins: 5 A (in), 6 Y (out)
part D pins: 8 Y (out), 9 A (in)
part E pins: 10 Y (out), 11 A (in)
part F pins: 12 Y (out), 13 A (in)

## COAX
designator P?
Coax Connector; Manufacturer: Generic Components; Class: Connector
signal-integrity model Connector
pins: 1 A, 2 B

## COAX-F
designator J?
Coax-F Connector; Manufacturer: Generic Components; Class: Connector
signal-integrity model Connector
pins: 1 A

## COAX-M
designator J?
Coax-M Connector; Manufacturer: Generic Components; Class: Connector
signal-integrity model Connector
pins: 1 A

## CON-3
designator J?
footprint CON-3
pins: 1, 2

## CONNECT-2
designator J?
Connector,2-Pin; Class: Connector
footprint HEAD2B-H
footprint HEAD2B-H - X
footprint HEAD2A
footprint HEAD2A - X
footprint HEAD2C-SMALL
pins: 1, 2

## CONNECT-3
designator J?
Connector,3-Pin; Class: Connector
footprint HEAD3B-H
footprint HEAD3B-H - X
footprint HEAD3A
footprint H-3-D
footprint HEAD3A - X
footprint HEAD3C-SMALL
pins: 1, 2, 3

## CONNECT-4
designator J?
Connector,4-Pin; Class: Connector
footprint HEAD4B-H - X
footprint HEAD4A
footprint HEAD4A - X
footprint HEAD4C-SMALL
footprint HEAD4C-BIG
pins: 1, 2, 3, 4

## CONNECT-5
designator J?
Connector,5-Pin; Class: Connector
footprint HEAD5B-H
footprint HEAD5B-H - X
footprint HEAD5A
footprint HEAD5A - X
footprint HEAD5C-SMALL
footprint HEAD5C-BIG
pins: 1, 2, 3, 4, 5

## CONNECT-6
designator J?
Connector,6-Pin; Class: Connector
footprint HEAD2B-H
footprint HEAD6B-H - X
footprint HEAD6A
footprint HEAD6A - X
pins: 1, 2, 3, 4, 5, 6

## CONNECT-7
designator J?
Connector,7-Pin; Class: Connector
footprint HEAD7B-H - X
footprint HEAD7A
footprint HEAD7A - X
pins: 1, 2, 3, 4, 5, 6, 7

## CONNECT-8
designator J?
Connector,8-Pin; Class: Connector
footprint HEAD8B-H - X
footprint HEAD8A
footprint HEAD8A - X
pins: 1, 2, 3, 4, 5, 6, 7, 8

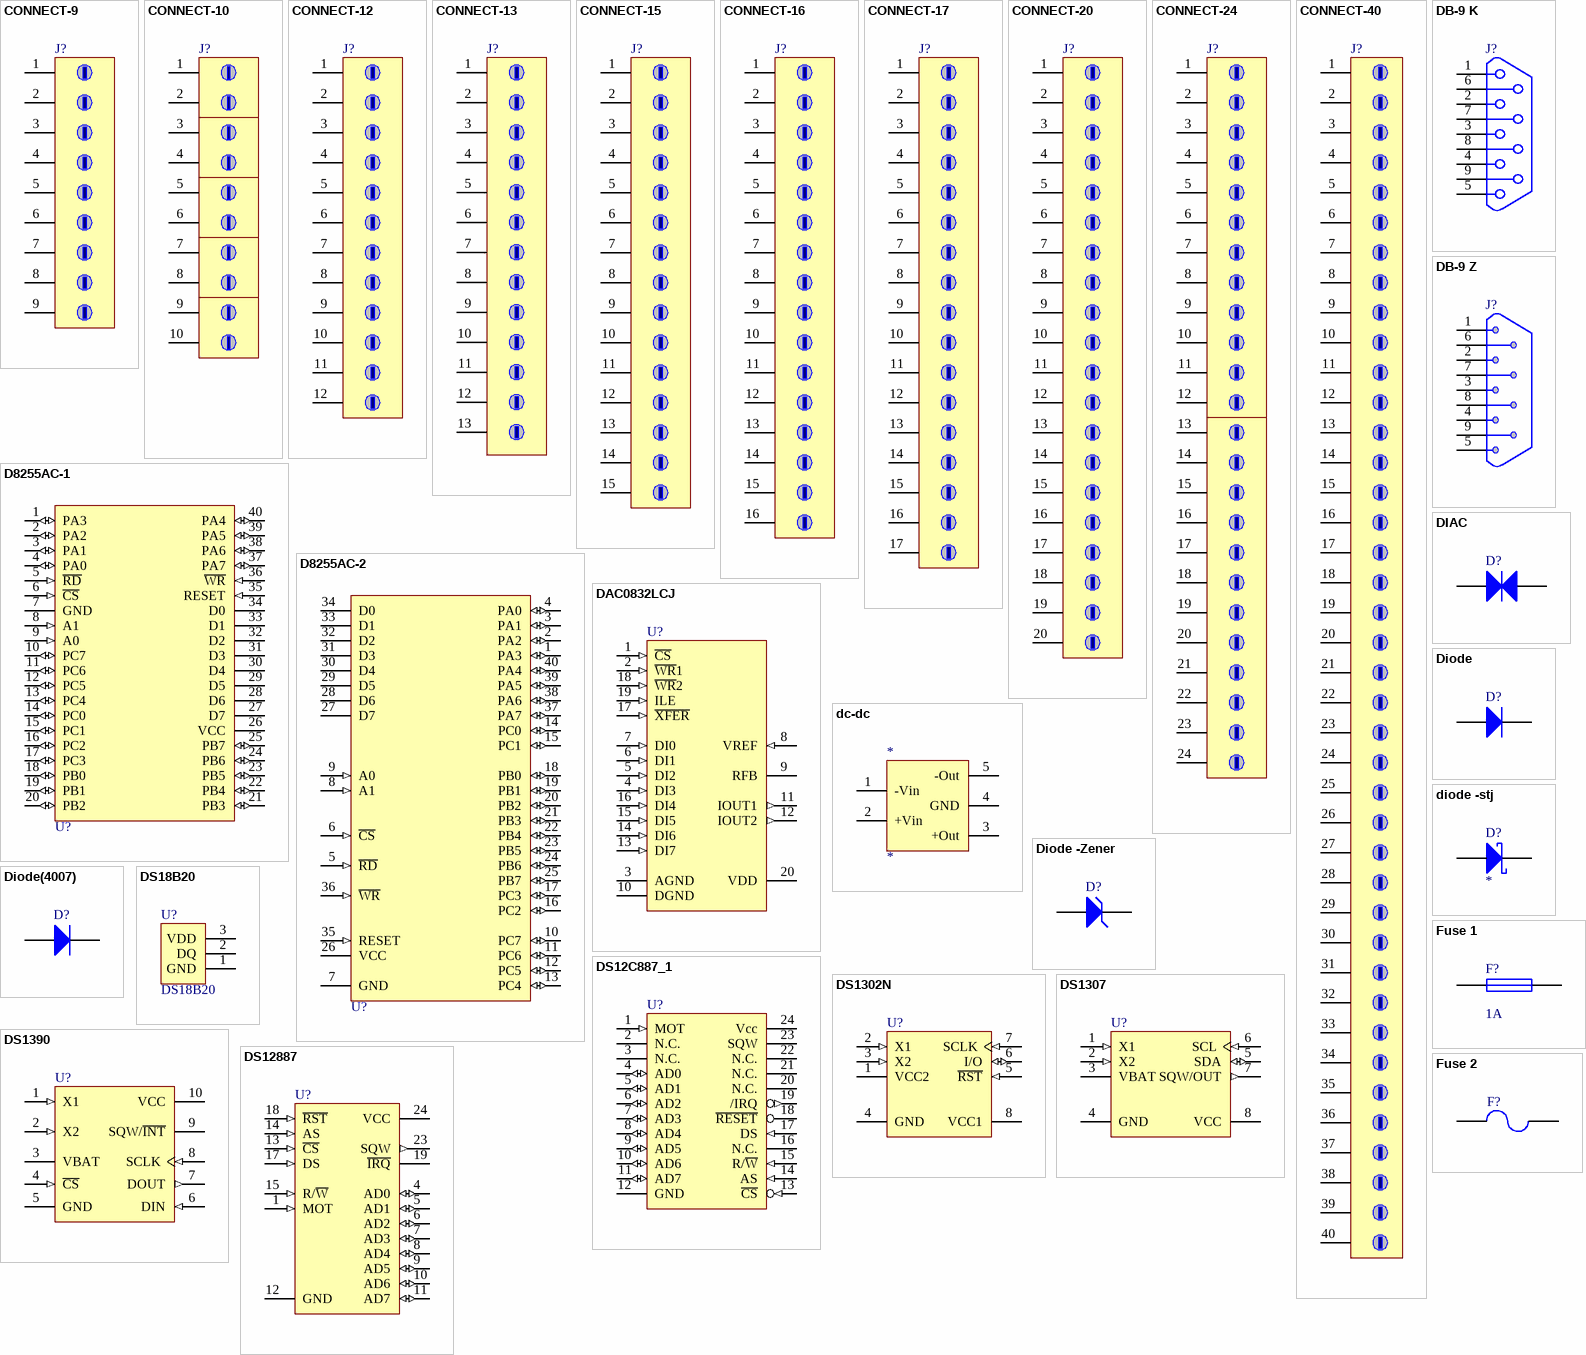
[diagram p3: symbols CONNECT-9 to Fuse 2]

## CONNECT-9
designator J?
Connector,9-Pin; Class: Connector
footprint HEAD9B-H
footprint HEAD9B-H - X
footprint HEAD9A
footprint HEAD9A - X
pins: 1, 2, 3, 4, 5, 6, 7, 8, 9

## CONNECT-10
designator J?
Connector,10-Pin; Class: Connector
footprint HEAD10B-H - X
footprint HEAD10A
footprint HEAD10A - X
pins: 1, 2, 3, 4, 5, 6, 7, 8, 9, 10

## CONNECT-12
designator J?
Connector,12-Pin; Class: Connector
footprint HEAD12B-H
footprint HEAD12B-H - X
footprint HEAD12A
footprint HEAD12A - X
footprint HEAD13A
pins: 1, 2, 3, 4, 5, 6, 7, 8, 9, 10, 11, 12

## CONNECT-13
designator J?
Connector,13-Pin; Class: Connector
footprint HEAD13B-H - X
footprint HEAD13A - X 1
footprint HEAD13A - 1
pins: 1, 2, 3, 4, 5, 6, 7, 8, 9, 10, 11, 12, 13

## CONNECT-15
designator J?
Connector,15-Pin; Class: Connector
footprint HEAD15B-H
footprint HEAD15B-H - X
footprint HEAD15A
footprint HEAD15A - X
pins: 1, 2, 3, 4, 5, 6, 7, 8, 9, 10, 11, 12, 13, 14, 15

## CONNECT-16
designator J?
Connector,16-Pin; Class: Connector
footprint HEAD16A
footprint HEAD16A - X
pins: 1, 2, 3, 4, 5, 6, 7, 8, 9, 10, 11, 12, 13, 14, 15, 16

## CONNECT-17
designator J?
Connector,17-Pin; Class: Connector
footprint HEAD17B-H - X
pins: 1, 2, 3, 4, 5, 6, 7, 8, 9, 10, 11, 12, 13, 14, 15, 16, 17

## CONNECT-20
designator J?
Connector,20-Pin; Class: Connector
footprint HEAD20B-H - X
pins: 1, 2, 3, 4, 5, 6, 7, 8, 9, 10, 11, 12, 13, 14, 15, 16, 17, 18, 19, 20

## CONNECT-24
designator J?
Connector,24Pin; Class: Connector
footprint HEAD24B-H - X
pins: 1, 2, 3, 4, 5, 6, 7, 8, 9, 10, 11, 12, 13, 14, 15, 16, 17, 18, 19, 20, 21, 22, 23, 24

## CONNECT-40
designator J?
Connector,40Pin; Class: Connector
footprint HEAD40B-H - X
pins: 1, 2, 3, 4, 5, 6, 7, 8, 9, 10, 11, 12, 13, 14, 15, 16, 17, 18, 19, 20, 21, 22, 23, 24, 25, 26, 27, 28, 29, 30, 31, 32, 33, 34, 35, 36, 37, 38, 39, 40

## D8255AC-1
designator U?
Peripheral Interface; Class: Peripheral
footprint DIP40
pins: 1 PA3 (io), 2 PA2 (io), 3 PA1 (io), 4 PA0 (io), 5 ~{RD} (in), 6 ~{CS} (in), 7 GND (power), 8 A1 (in), 9 A0 (in), 10 PC7 (io), 11 PC6 (io), 12 PC5 (io), 13 PC4 (io), 14 PC0 (io), 15 PC1 (io), 16 PC2 (io), 17 PC3 (io), 18 PB0 (io), 19 PB1 (io), 20 PB2 (io), 21 PB3 (io), 22 PB4 (io), 23 PB5 (io), 24 PB6 (io), 25 PB7 (io), 26 VCC (power), 27 D7 (hiz), 28 D6 (hiz), 29 D5 (hiz), 30 D4 (hiz), 31 D3 (hiz), 32 D2 (hiz), 33 D1 (hiz), 34 D0 (hiz), 35 RESET (in), 36 ~{WR} (in), 37 PA7 (io), 38 PA6 (io), 39 PA5 (io), 40 PA4 (io)

## D8255AC-2
designator U?
Peripheral Interface; Class: Peripheral
footprint DIP40
pins: 1 PA3 (io), 2 PA2 (io), 3 PA1 (io), 4 PA0 (io), 5 ~{RD} (in), 6 ~{CS} (in), 7 GND (power), 8 A1 (in), 9 A0 (in), 10 PC7 (io), 11 PC6 (io), 12 PC5 (io), 13 PC4 (io), 14 PC0 (io), 15 PC1 (io), 16 PC2 (io), 17 PC3 (io), 18 PB0 (io), 19 PB1 (io), 20 PB2 (io), 21 PB3 (io), 22 PB4 (io), 23 PB5 (io), 24 PB6 (io), 25 PB7 (io), 26 VCC (power), 27 D7 (hiz), 28 D6 (hiz), 29 D5 (hiz), 30 D4 (hiz), 31 D3 (hiz), 32 D2 (hiz), 33 D1 (hiz), 34 D0 (hiz), 35 RESET (in), 36 ~{WR} (in), 37 PA7 (io), 38 PA6 (io), 39 PA5 (io), 40 PA4 (io)

## DAC0832LCJ
designator U?
8-Bit 礟-Compatible, Double-Buffered Digital-to-Analog Converter; Manufacturer: National Semiconductor; SubClass: Digital to Analog; Published: 15/04/2002; Publisher: Altium Hobart Technology Centre; Class: Converter
footprint DIP20
pins: 1 ~{CS} (in), 2 ~{WR}1 (in), 3 AGND (power), 4 DI3 (in), 5 DI2 (in), 6 DI1 (in), 7 DI0 (in), 8 VREF (in), 9 RFB, 10 DGND (power), 11 IOUT1 (out), 12 IOUT2 (out), 13 DI7 (in), 14 DI6 (in), 15 DI5 (in), 16 DI4 (in), 17 ~{XFER} (in), 18 ~{WR}2 (in), 19 ILE (in), 20 VDD (power)

## DB-9 K
designator J?
Connectot,DB-9,K; Class: Connector
footprint DSUB1.385-2H9K
footprint DSUB1.385-2H9K - X
pins: 1, 2, 3, 4, 5, 6, 7, 8, 9

## DB-9 Z
designator J?
Connectot,DB-9,Z; Class: Connector
footprint DSUB1.385-2H9Z
footprint DSUB1.385-2H9Z - X
pins: 1, 2, 3, 4, 5, 6, 7, 8, 9

## dc-dc
designator *
footprint SR-DC-DC/A
pins: 1 -Vin (power), 2 +Vin (power), 3 +Out (power), 4 GND (power), 5 -Out (power)

## DIAC
designator D?
Trigger Diodes; Manufacturer: Generic Components; Class: Discrete; Published: 08/06/2000; Publisher: Altium Hobart Technology Centre; SubClass: Diodes
simulation model DIODE (Diode)
signal-integrity model Diode
footprint DIODE0.3-T
pins: 1 A, 2 K

## Diode
designator D?
Default Diode; Manufacturer: Generic Components; Class: Discrete; SubClass: Diode - Switching; Published: 08/06/2000; Publisher: Altium Hobart Technology Centre
simulation model DIODE (Diode)
signal-integrity model Diode
footprint 1n4148
footprint DIODE0.4
pins: 1 A, 2 K

## diode -stj
designator D?
footprint DIODE0.5
pins: 1 (power), 2 (power)

## Diode -Zener
designator D?
Zener Diode; Manufacturer: Generic Components; Class: Discrete; SubClass: Diode - Zener; Value: 5V; Published: 08/06/2000; Publisher: Altium Hobart Technology Centre
simulation model ZENER (Diode)
signal-integrity model D Zener
footprint DIODE0.4
footprint Diode-5817
footprint Diode-5819
pins: 1 A, 2 K

## Diode(4007)
designator D?
Default Diode; Manufacturer: Generic Components; Class: Discrete; SubClass: Diode - Switching; Published: 08/06/2000; Publisher: Altium Hobart Technology Centre
simulation model DIODE (Diode)
signal-integrity model Diode
footprint DIODE0.4-B
footprint DIODE0.5
pins: 1 A, 2 K

## DS12C887_1
designator U?
Real-Time Clock; Class: Peripheral; SubClass: Real-Time Clock
footprint DIP-P18(24)
pins: 1 MOT (in), 2 N.C., 3 N.C., 4 AD0 (io), 5 AD1 (io), 6 AD2 (io), 7 AD3 (io), 8 AD4 (io), 9 AD5 (io), 10 AD6 (io), 11 AD7 (io), 12 GND (power), 13 ~{CS} (in), 14 AS (in), 15 R/~{W} (in), 16 N.C., 17 DS (in), 18 ~{RESET}, 19 /IRQ (out), 20 N.C., 21 N.C., 22 N.C., 23 SQW, 24 Vcc (power)

## DS18B20
designator U?
Programmable Resolution / 1-Wire Digital Thermometer
footprint BCY-3
footprint BCY-3/X
pins: 1 GND (power), 2 DQ, 3 VDD (power)

## DS1302N
designator U?
Trickle Charge Timekeeping Chip; Manufacturer: Dallas Semiconductor; Class: Peripheral; SubClass: Real Time Clock; Published: 13/10/2000; Publisher: Altium Hobart Technology Centre
footprint DIP8
pins: 1 VCC2 (power), 2 X1 (in), 3 X2 (in), 4 GND (power), 5 ~{RST} (in), 6 I/O (io), 7 SCLK (in), 8 VCC1 (power)

## DS1307
designator U?
64 X 8 Serial Real-Time Clock; Manufacturer: Dallas Semiconductor; Class: Peripheral; SubClass: Real Time Clock; Published: 13/10/2000; Publisher: Altium Hobart Technology Centre
footprint DIP8
pins: 1 X1 (in), 2 X2 (in), 3 VBAT (power), 4 GND (power), 5 SDA (io), 6 SCL (in), 7 SQW/OUT (out), 8 VCC (power)

## DS1390
designator U?
64 X 8 Serial Real-Time Clock; Manufacturer: Dallas Semiconductor; Class: Peripheral; SubClass: Real Time Clock; Published: 13/10/2000; Publisher: Altium Hobart Technology Centre
footprint TSSO3x5/G10
pins: 1 X1 (in), 2 X2 (in), 3 VBAT (power), 4 ~{CS} (in), 5 GND (power), 6 DIN (in), 7 DOUT (out), 8 SCLK (in), 9 SQW/~{INT}, 10 VCC (power)

## DS12887
designator U?
Real-Time Clock; Manufacturer: Dallas Semiconductor; Class: Peripheral; SubClass: Real Time Clock; Note: Pin numbers 2, 3, 16, 20 and 22 are Not Connected (NC); Published: 13/10/2000; Publisher: Altium Hobart Technology Centre
footprint DIP-P18(24)
pins: 1 MOT (in), 4 AD0 (io), 5 AD1 (io), 6 AD2 (io), 7 AD3 (io), 8 AD4 (io), 9 AD5 (io), 10 AD6 (io), 11 AD7 (io), 12 GND (power), 13 ~{CS} (in), 14 AS (in), 15 R/~{W} (in), 17 DS (in), 18 ~{RST} (in), 19 ~{IRQ} (oc), 23 SQW (out), 24 VCC (power)

## Fuse 1
designator F?  value 1A
Fuse; Manufacturer: Generic Components; Class: Passive; Published: 08/06/2000; Publisher: Altium Hobart Technology Centre; SubClass: Fuse
simulation model FUSE (Spice Subcircuit)
footprint PIN-W4/FUSE
footprint PIN-W4-XX
pins: 1, 2

## Fuse 2
designator F?
Fuse; Manufacturer: Generic Components; Class: Passive; Published: 08/06/2000; Publisher: Altium Hobart Technology Centre; SubClass: Fuse
simulation model FUSE (Spice Subcircuit)
footprint PIN-W4/FUSE
pins: 1, 2

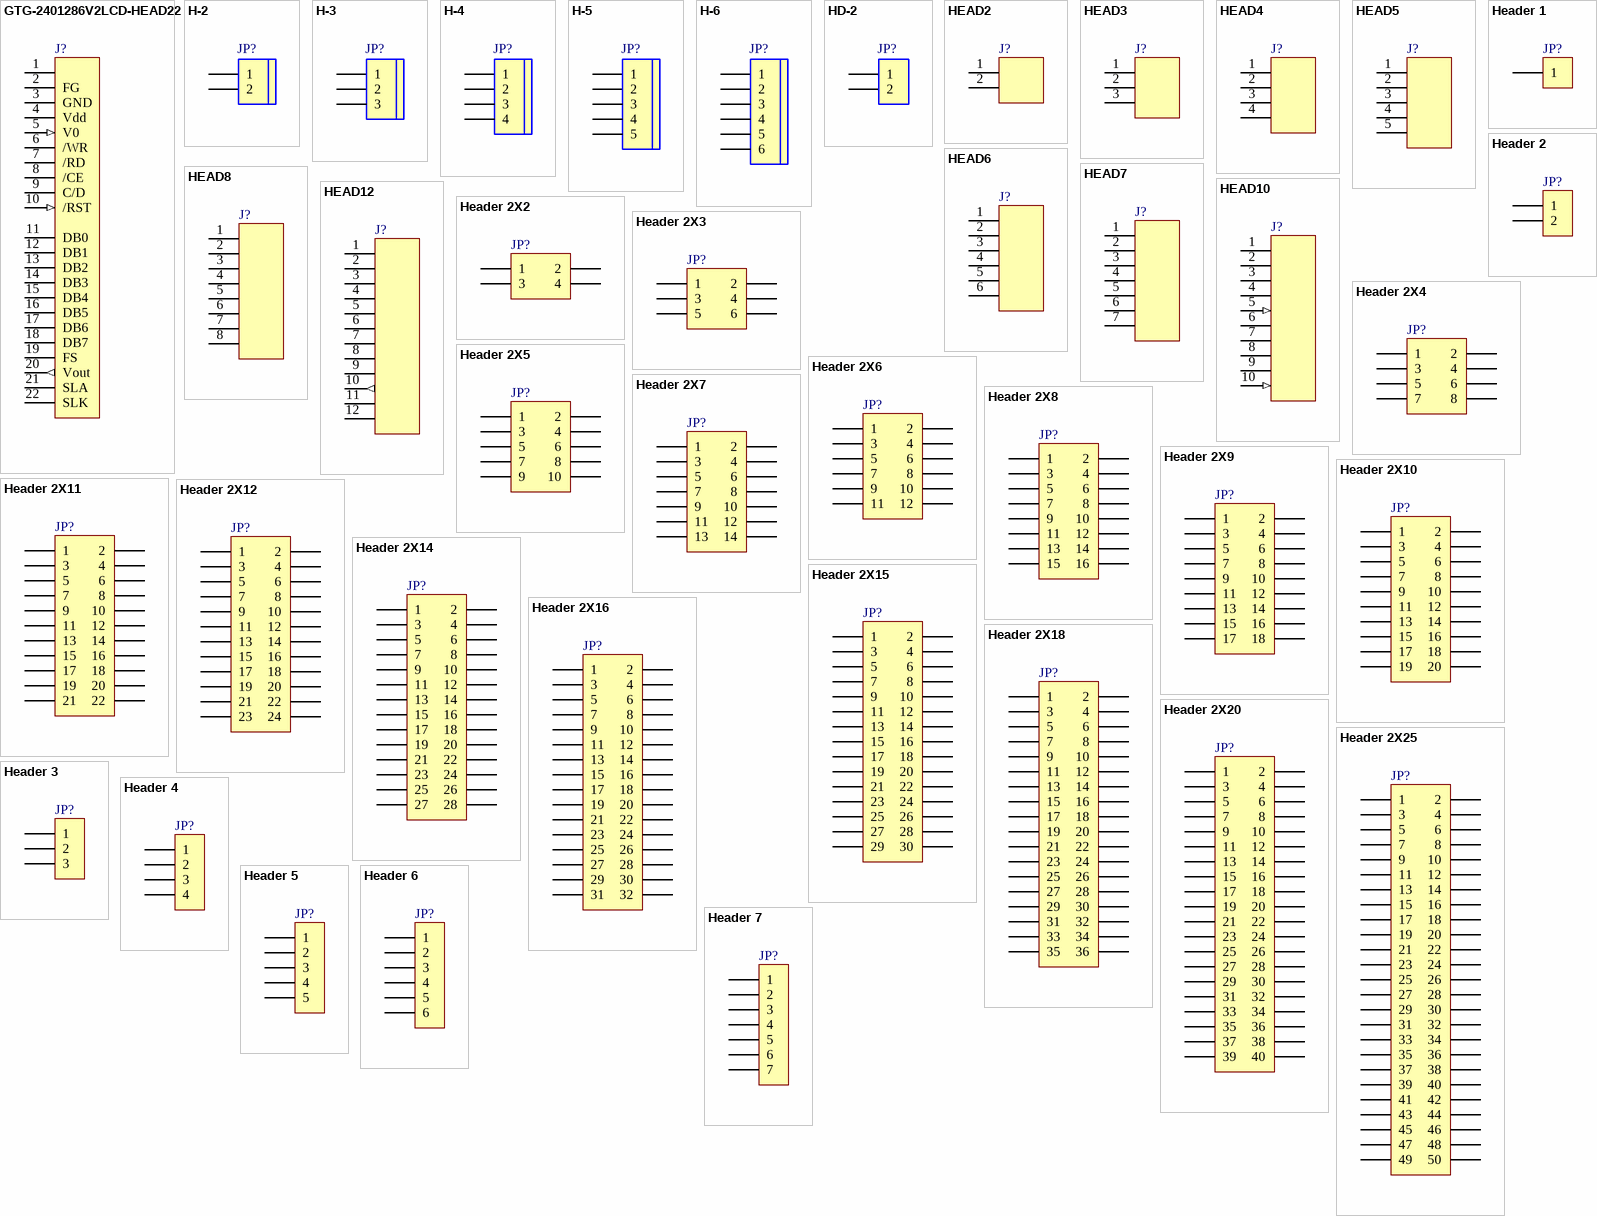
[diagram p4: symbols GTG-2401286V2LCD-HEAD22 to Header 7]

## GTG-2401286V2LCD-HEAD22
designator J?
LCD Connector,22pin; Class: Connector
footprint HEAD22M-LCD
pins: 1, 2 FG, 3 GND (power), 4 Vdd (power), 5 V0 (in), 6 /WR, 7 /RD, 8 /CE, 9 C/D, 10 /RST (in), 11 DB0, 12 DB1, 13 DB2, 14 DB3, 15 DB4, 16 DB5, 17 DB6, 18 DB7, 19 FS, 20 Vout (out), 21 SLA, 22 SLK

## H-2
designator JP?
Header, 2-Pin; Manufacturer: Generic Components; Class: Connector
signal-integrity model Connector
footprint H-2/2
footprint H-2/3
footprint H-2/2-T
footprint H-2/3-T
pins: 1, 2

## H-3
designator JP?
Header, 3-Pin; Manufacturer: Generic Components; Class: Connector
signal-integrity model Connector
footprint H-3/3
footprint H-3/3-T
pins: 1, 2, 3

## H-4
designator JP?
Header, 4-Pin; Manufacturer: Generic Components; Class: Connector
signal-integrity model Connector
footprint H-4/4
footprint H-4/4 -T
pins: 1, 2, 3, 4

## H-5
designator JP?
Header, 5-Pin; Manufacturer: Generic Components; Class: Connector
signal-integrity model Connector
footprint H-5/5
footprint H-5/5-T
pins: 1, 2, 3, 4, 5

## H-6
designator JP?
Header,6-Pin; Manufacturer: Generic Components; Class: Connector
signal-integrity model Connector
footprint H-6/6
footprint H-6/6-T
pins: 1, 2, 3, 4, 5, 6

## HD-2
designator JP?
Header, 2-Pin; Manufacturer: Generic Components; Class: Connector
signal-integrity model Connector
footprint HT2
pins: 1, 2

## HEAD2
designator J?
Connector,2-pin; Class: Connector
footprint H- 2
footprint HEAD2M
pins: 1, 2

## HEAD3
designator J?
Connector,3-pin; Class: Connector
footprint H- 3
footprint H- 3C
footprint HEAD3M
pins: 1, 2, 3

## HEAD4
designator J?
Connector,4-pin; Class: Connector
footprint HEAD4M
footprint HEAD4M - F
footprint H- 4C
footprint H- 4
footprint J4
pins: 1, 2, 3, 4

## HEAD5
designator J?
Connector,5-pin; Class: Connector
footprint HEAD5M
pins: 1, 2, 3, 4, 5

## HEAD6
designator J?
Connector,6-pin; Class: Connector
footprint HEAD6M
footprint HEAD6M - F
footprint HEAD6M - C
footprint H- 6
pins: 1, 2, 3, 4, 5, 6

## HEAD7
designator J?
Connector,7-pin; Class: Connector
footprint HEAD7M - C 1
pins: 1, 2, 3, 4, 5, 6, 7

## HEAD8
designator J?
Connector,8-pin; Class: Connector
footprint HEAD8M
footprint HEAD8M - F
footprint HEAD8M - C 1
pins: 1, 2, 3, 4, 5, 6, 7, 8

## HEAD10
designator J?
Connector,10-pin; Class: Connector
footprint HEAD10M
footprint HEAD10M - F
pins: 1, 2, 3 (power), 4 (power), 5 (in), 6, 7, 8, 9, 10 (in)

## HEAD12
designator J?
Connector,12-pin; Class: Connector
footprint HEAD12M
footprint HEAD12M - F
footprint J12
pins: 1, 2, 3, 4, 5, 6, 7, 8, 9, 10 (out), 11, 12

## Header 1
designator JP?
Header, 1-Pin; Manufacturer: Generic Components; Class: Connector
signal-integrity model Connector
footprint HDR1-1
pins: 1

## Header 2
designator JP?
Header, 2-Pin; Manufacturer: Generic Components; Class: Connector
signal-integrity model Connector
footprint HDR1-2
pins: 1, 2

## Header 2X2
designator JP?
Header, 2-Pin, Dual row; Manufacturer: Generic Components; Class: Connector
signal-integrity model Connector
footprint HDR2-2
pins: 1, 2, 3, 4

## Header 2X3
designator JP?
Header, 3-Pin, Dual row; Manufacturer: Generic Components; Class: Connector
signal-integrity model Connector
footprint HDR2-3
pins: 1, 2, 3, 4, 5, 6

## Header 2X4
designator JP?
Header, 4-Pin, Dual row; Manufacturer: Generic Components; Class: Connector
signal-integrity model Connector
footprint HDR2-4
pins: 1, 2, 3, 4, 5, 6, 7, 8

## Header 2X5
designator JP?
Header, 5-Pin, Dual row; Manufacturer: Generic Components; Class: Connector
signal-integrity model Connector
footprint HDR2-5
pins: 1, 2, 3, 4, 5, 6, 7, 8, 9, 10

## Header 2X6
designator JP?
Header, 6-Pin, Dual row; Manufacturer: Generic Components; Class: Connector
signal-integrity model Connector
footprint HDR2-6
footprint HDR2-6 - F
pins: 1, 2, 3, 4, 5, 6, 7, 8, 9, 10, 11, 12

## Header 2X7
designator JP?
Header, 7-Pin, Dual row; Manufacturer: Generic Components; Class: Connector
signal-integrity model Connector
footprint HDR2-7
pins: 1, 2, 3, 4, 5, 6, 7, 8, 9, 10, 11, 12, 13, 14

## Header 2X8
designator JP?
Header, 8-Pin, Dual row; Manufacturer: Generic Components; Class: Connector
signal-integrity model Connector
footprint HDR2-8
pins: 1, 2, 3, 4, 5, 6, 7, 8, 9, 10, 11, 12, 13, 14, 15, 16

## Header 2X9
designator JP?
Header, 9-Pin, Dual row; Manufacturer: Generic Components; Class: Connector
signal-integrity model Connector
footprint HDR2-9
pins: 1, 2, 3, 4, 5, 6, 7, 8, 9, 10, 11, 12, 13, 14, 15, 16, 17, 18

## Header 2X10
designator JP?
Header, 10-Pin, Dual row; Manufacturer: Generic Components; Class: Connector
signal-integrity model Connector
footprint HDR2-10
pins: 1, 2, 3, 4, 5, 6, 7, 8, 9, 10, 11, 12, 13, 14, 15, 16, 17, 18, 19, 20

## Header 2X11
designator JP?
Header, 11Pin, Dual row; Manufacturer: Generic Components; Class: Connector
signal-integrity model Connector
footprint HDR2-11
pins: 1, 2, 3, 4, 5, 6, 7, 8, 9, 10, 11, 12, 13, 14, 15, 16, 17, 18, 19, 20, 21, 22

## Header 2X12
designator JP?
Header, 12Pin, Dual row; Manufacturer: Generic Components; Class: Connector
signal-integrity model Connector
footprint HDR2-12
pins: 1, 2, 3, 4, 5, 6, 7, 8, 9, 10, 11, 12, 13, 14, 15, 16, 17, 18, 19, 20, 21, 22, 23, 24

## Header 2X14
designator JP?
Header, 14Pin, Dual row; Manufacturer: Generic Components; Class: Connector
signal-integrity model Connector
footprint HDR2-14
pins: 1, 2, 3, 4, 5, 6, 7, 8, 9, 10, 11, 12, 13, 14, 15, 16, 17, 18, 19, 20, 21, 22, 23, 24, 25, 26, 27, 28

## Header 2X15
designator JP?
Header, 15Pin, Dual row; Manufacturer: Generic Components; Class: Connector
signal-integrity model Connector
footprint HDR2-15 -1
pins: 1, 2, 3, 4, 5, 6, 7, 8, 9, 10, 11, 12, 13, 14, 15, 16, 17, 18, 19, 20, 21, 22, 23, 24, 25, 26, 27, 28, 29, 30

## Header 2X16
designator JP?
Header, 16Pin, Dual row; Manufacturer: Generic Components; Class: Connector
signal-integrity model Connector
footprint HDR2-16
pins: 1, 2, 3, 4, 5, 6, 7, 8, 9, 10, 11, 12, 13, 14, 15, 16, 17, 18, 19, 20, 21, 22, 23, 24, 25, 26, 27, 28, 29, 30, 31, 32

## Header 2X18
designator JP?
Header, 18Pin, Dual row; Manufacturer: Generic Components; Class: Connector
signal-integrity model Connector
footprint HDR2-18
pins: 1, 2, 3, 4, 5, 6, 7, 8, 9, 10, 11, 12, 13, 14, 15, 16, 17, 18, 19, 20, 21, 22, 23, 24, 25, 26, 27, 28, 29, 30, 31, 32, 33, 34, 35, 36

## Header 2X20
designator JP?
Header, 20Pin, Dual row; Manufacturer: Generic Components; Class: Connector
signal-integrity model Connector
footprint HDR2-20
pins: 1, 2, 3, 4, 5, 6, 7, 8, 9, 10, 11, 12, 13, 14, 15, 16, 17, 18, 19, 20, 21, 22, 23, 24, 25, 26, 27, 28, 29, 30, 31, 32, 33, 34, 35, 36, 37, 38, 39, 40

## Header 2X25
designator JP?
Header, 25Pin, Dual row; Manufacturer: Generic Components; Class: Connector
signal-integrity model Connector
footprint HDR2-25
pins: 1, 2, 3, 4, 5, 6, 7, 8, 9, 10, 11, 12, 13, 14, 15, 16, 17, 18, 19, 20, 21, 22, 23, 24, 25, 26, 27, 28, 29, 30, 31, 32, 33, 34, 35, 36, 37, 38, 39, 40, 41, 42, 43, 44, 45, 46, 47, 48, 49, 50

## Header 3
designator JP?
Header, 3-Pin; Manufacturer: Generic Components; Class: Connector
signal-integrity model Connector
footprint HDR1-3
pins: 1, 2, 3

## Header 4
designator JP?
Header, 4-Pin; Manufacturer: Generic Components; Class: Connector
signal-integrity model Connector
footprint HDR1-4
pins: 1, 2, 3, 4

## Header 5
designator JP?
Header, 5-Pin; Manufacturer: Generic Components; Class: Connector
signal-integrity model Connector
footprint HDR1-5
pins: 1, 2, 3, 4, 5

## Header 6
designator JP?
Header, 6-Pin; Manufacturer: Generic Components; Class: Connector
signal-integrity model Connector
footprint HDR1-6
pins: 1, 2, 3, 4, 5, 6

## Header 7
designator JP?
Header, 7-Pin; Manufacturer: Generic Components; Class: Connector
signal-integrity model Connector
footprint HDR1-7
pins: 1, 2, 3, 4, 5, 6, 7

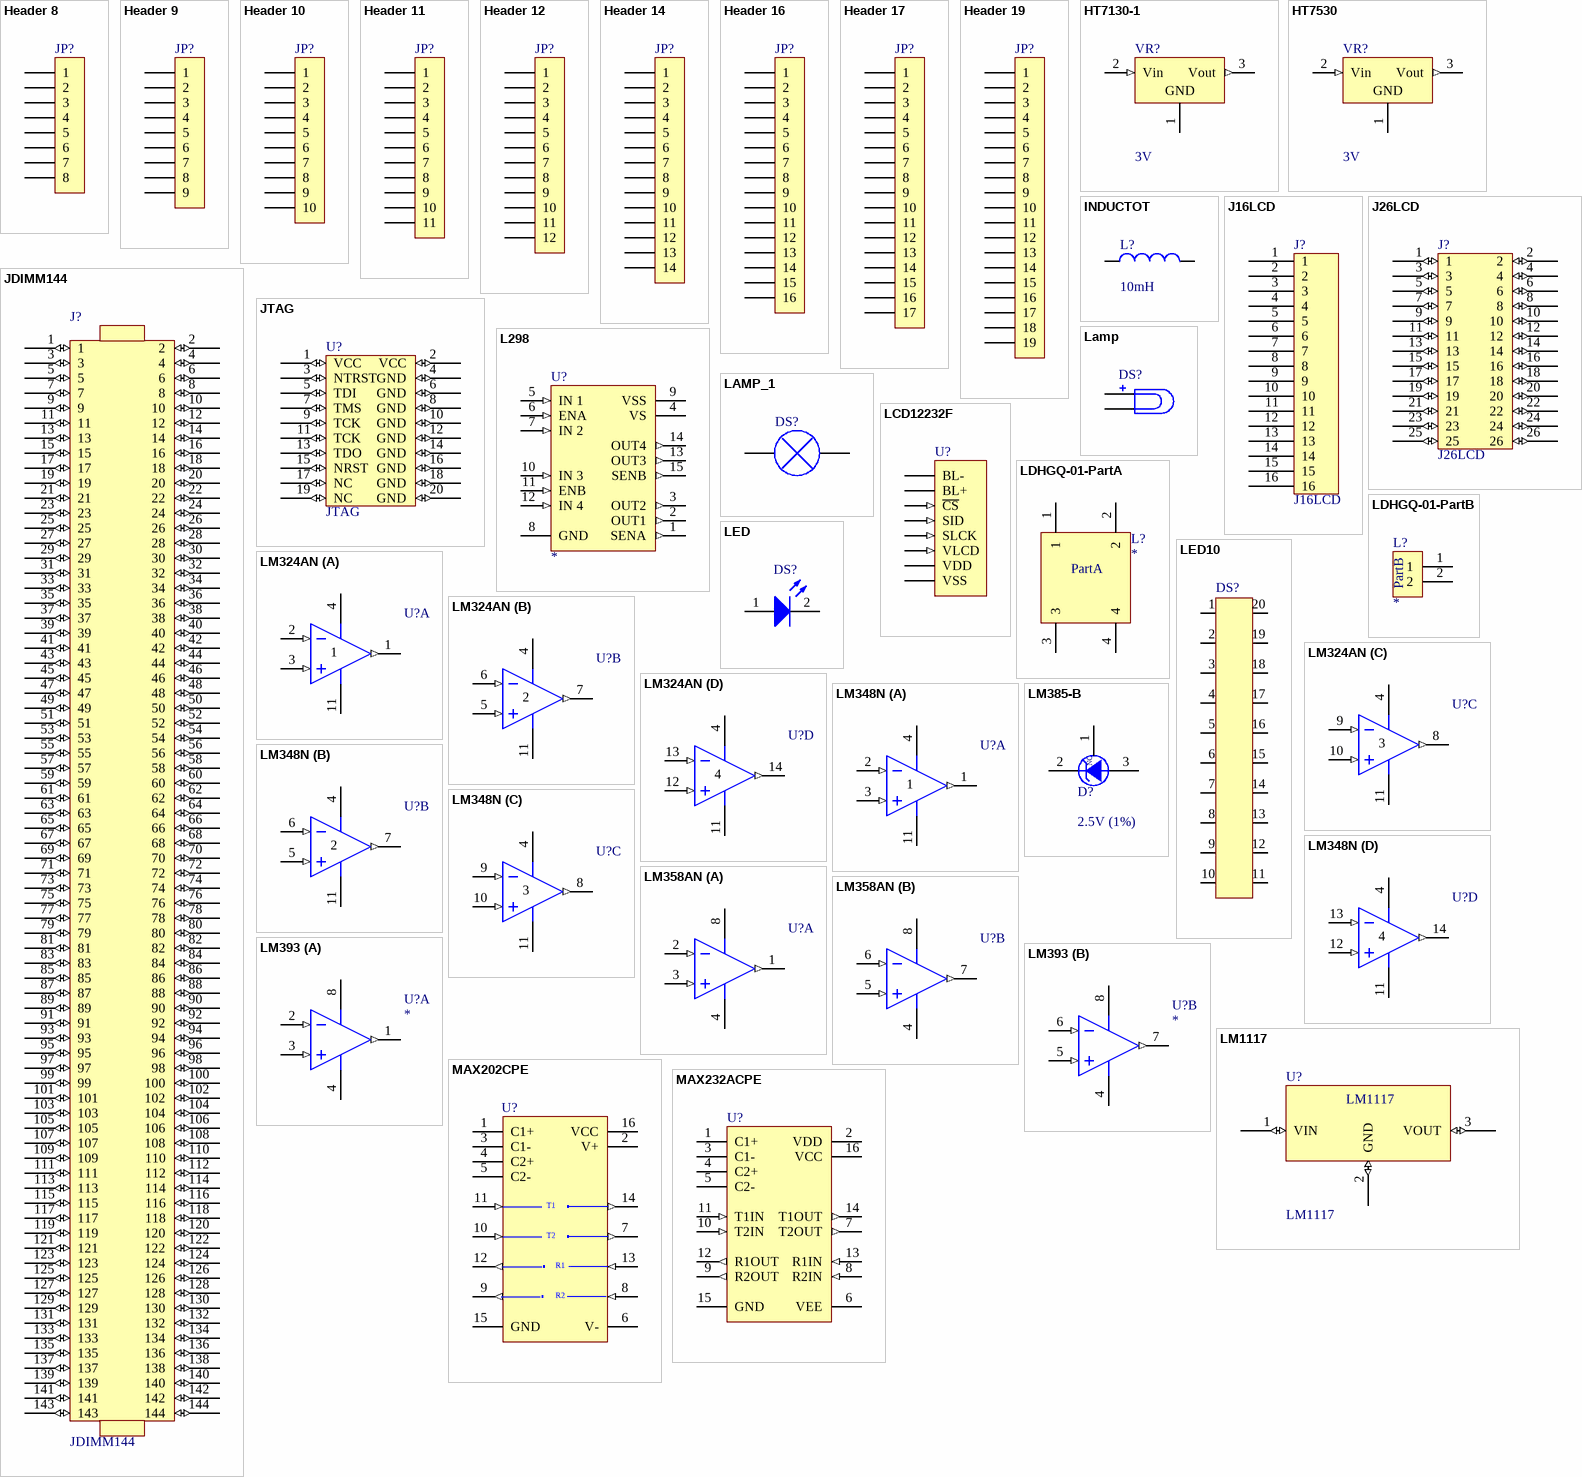
[diagram p5: symbols Header 8 to MAX232ACPE]

## Header 8
designator JP?
Header, 8-Pin; Manufacturer: Generic Components; Class: Connector
signal-integrity model Connector
footprint HDR1-8
pins: 1, 2, 3, 4, 5, 6, 7, 8

## Header 9
designator JP?
Header, 9-Pin; Manufacturer: Generic Components; Class: Connector
signal-integrity model Connector
footprint HDR1-9
pins: 1, 2, 3, 4, 5, 6, 7, 8, 9

## Header 10
designator JP?
Header, 10-Pin; Manufacturer: Generic Components; Class: Connector
signal-integrity model Connector
footprint HDR1-10
footprint HDR1-10 -H
pins: 1, 2, 3, 4, 5, 6, 7, 8, 9, 10

## Header 11
designator JP?
Header, 11-Pin; Manufacturer: Generic Components; Class: Connector
signal-integrity model Connector
footprint HDR1-11
pins: 1, 2, 3, 4, 5, 6, 7, 8, 9, 10, 11

## Header 12
designator JP?
Header, 12Pin; Manufacturer: Generic Components; Class: Connector
signal-integrity model Connector
footprint HDR1-12
pins: 1, 2, 3, 4, 5, 6, 7, 8, 9, 10, 11, 12

## Header 14
designator JP?
Header, 14-Pin; Manufacturer: Generic Components; Class: Connector
signal-integrity model Connector
footprint HDR1-14
pins: 1, 2, 3, 4, 5, 6, 7, 8, 9, 10, 11, 12, 13, 14

## Header 16
designator JP?
Header, 16-Pin; Manufacturer: Generic Components; Class: Connector
signal-integrity model Connector
footprint HDR1-16
pins: 1, 2, 3, 4, 5, 6, 7, 8, 9, 10, 11, 12, 13, 14, 15, 16

## Header 17
designator JP?
Header, 17-Pin; Manufacturer: Generic Components; Class: Connector
signal-integrity model Connector
footprint HDR1-17
pins: 1, 2, 3, 4, 5, 6, 7, 8, 9, 10, 11, 12, 13, 14, 15, 16, 17

## Header 19
designator JP?
Header, 19-Pin; Manufacturer: Generic Components; Class: Connector
signal-integrity model Connector
footprint HDR1-19
pins: 1, 2, 3, 4, 5, 6, 7, 8, 9, 10, 11, 12, 13, 14, 15, 16, 17, 18, 19

## HT7130-1
designator VR?  value 3V
Voltage Regulator; Manufacturer: Generic Components; Class: Power Management; Published: 1999; SubClass: Voltage Regulator
footprint BCY-3 -F
pins: 1 GND (power), 2 Vin (in), 3 Vout (out)

## HT7530
designator VR?  value 3V
Voltage Regulator; Manufacturer: Generic Components; Class: Power Management; Published: 1999; SubClass: Voltage Regulator
footprint BCY-3 -F
pins: 1 GND (power), 2 Vin (in), 3 Vout (out)

## INDUCTOT
designator L?  value 10mH
Inductor; Manufacturer: Generic Components; Class: Passive; Published: 08/06/2000; Publisher: Altium Hobart Technology Centre; SubClass: Inductor
simulation model INDUCTOR (Inductor)
signal-integrity model Inductor
footprint AXLAL0.4
footprint RBL0.2
footprint INDUCT
pins: 1, 2

## J16LCD
designator J?
footprint J16LCD
pins: 1, 2, 3, 4, 5, 6, 7, 8, 9, 10, 11, 12, 13, 14, 15, 16

## J26LCD
designator J?
footprint J26
pins: 1 (io), 2 (io), 3 (io), 4 (io), 5 (io), 6 (io), 7 (io), 8 (io), 9 (io), 10 (io), 11 (io), 12 (io), 13 (io), 14 (io), 15 (io), 16 (io), 17 (io), 18 (io), 19 (io), 20 (io), 21 (io), 22 (io), 23 (io), 24 (io), 25 (io), 26 (io)

## JDIMM144
designator J?
footprint DIMM144
pins: 1 (io), 2 (io), 3 (io), 4 (io), 5 (io), 6 (io), 7 (io), 8 (io), 9 (io), 10 (io), 11 (io), 12 (io), 13 (io), 14 (io), 15 (io), 16 (io), 17 (io), 18 (io), 19 (io), 20 (io), 21 (io), 22 (io), 23 (io), 24 (io), 25 (io), 26 (io), 27 (io), 28 (io), 29 (io), 30 (io), 31 (io), 32 (io), 33 (io), 34 (io), 35 (io), 36 (io), 37 (io), 38 (io), 39 (io), 40 (io), 41 (io), 42 (io), 43 (io), 44 (io), 45 (io), 46 (io), 47 (io), 48 (io), 49 (io), 50 (io), 51 (io), 52 (io), 53 (io), 54 (io), 55 (io), 56 (io), 57 (io), 58 (io), 59 (io), 60 (io), 61 (io), 62 (io), 63 (io), 64 (io), 65 (io), 66 (io), 67 (io), 68 (io), 69 (io), 70 (io), 71 (io), 72 (io), 73 (io), 74 (io), 75 (io), 76 (io), 77 (io), 78 (io), 79 (io), 80 (io), 81 (io), 82 (io), 83 (io), 84 (io), 85 (io), 86 (io), 87 (io), 88 (io), 89 (io), 90 (io), 91 (io), 92 (io), 93 (io), 94 (io), 95 (io), 96 (io), 97 (io), 98 (io), 99 (io), 100 (io), 101 (io), 102 (io), 103 (io), 104 (io), 105 (io), 106 (io), 107 (io), 108 (io), 109 (io), 110 (io), 111 (io), 112 (io), 113 (io), 114 (io), 115 (io), 116 (io), 117 (io), 118 (io), 119 (io), 120 (io), 121 (io), 122 (io), 123 (io), 124 (io), 125 (io), 126 (io), 127 (io), 128 (io), 129 (io), 130 (io), 131 (io), 132 (io), 133 (io), 134 (io), 135 (io), 136 (io), 137 (io), 138 (io), 139 (io), 140 (io), 141 (io), 142 (io), 143 (io), 144 (io)

## JTAG
designator U?
footprint JTAG20
pins: 1 VCC (io), 2 VCC (io), 3 NTRST (io), 4 GND (io), 5 TDI (io), 6 GND (io), 7 TMS (io), 8 GND (io), 9 TCK (io), 10 GND (io), 11 TCK (io), 12 GND (io), 13 TDO (io), 14 GND (io), 15 NRST (io), 16 GND (io), 17 NC (io), 18 GND (io), 19 NC (io), 20 GND (io)

## L298
designator U?
MOTO DEVICE
pins: 1 SENA (out), 2 OUT1 (out), 3 OUT2 (out), 4 VS (power), 5 IN 1 (in), 6 ENA (in), 7 IN 2 (in), 8 GND (power), 9 VSS (power), 10 IN 3 (in), 11 ENB (in), 12 IN 4 (in), 13 OUT3 (out), 14 OUT4 (out), 15 SENB (out)

## Lamp
designator DS?
LED Bulb; Manufacturer: Generic Components; Published: 1999
footprint LED0.1-0.15
footprint LED0.1-0.22
footprint LED0.1-0.36
pins: 1, 2

## LAMP_1
designator DS?
Incandescent Bulb; Manufacturer: Generic Components; Published: 1999
footprint LED0.1-0.36
pins: 1, 2